# Altium schematic symbol library Library.SchLib: 352 symbols (part 1 of 2)
Pins are listed as number, name and electrical type; pins without a type are passive.

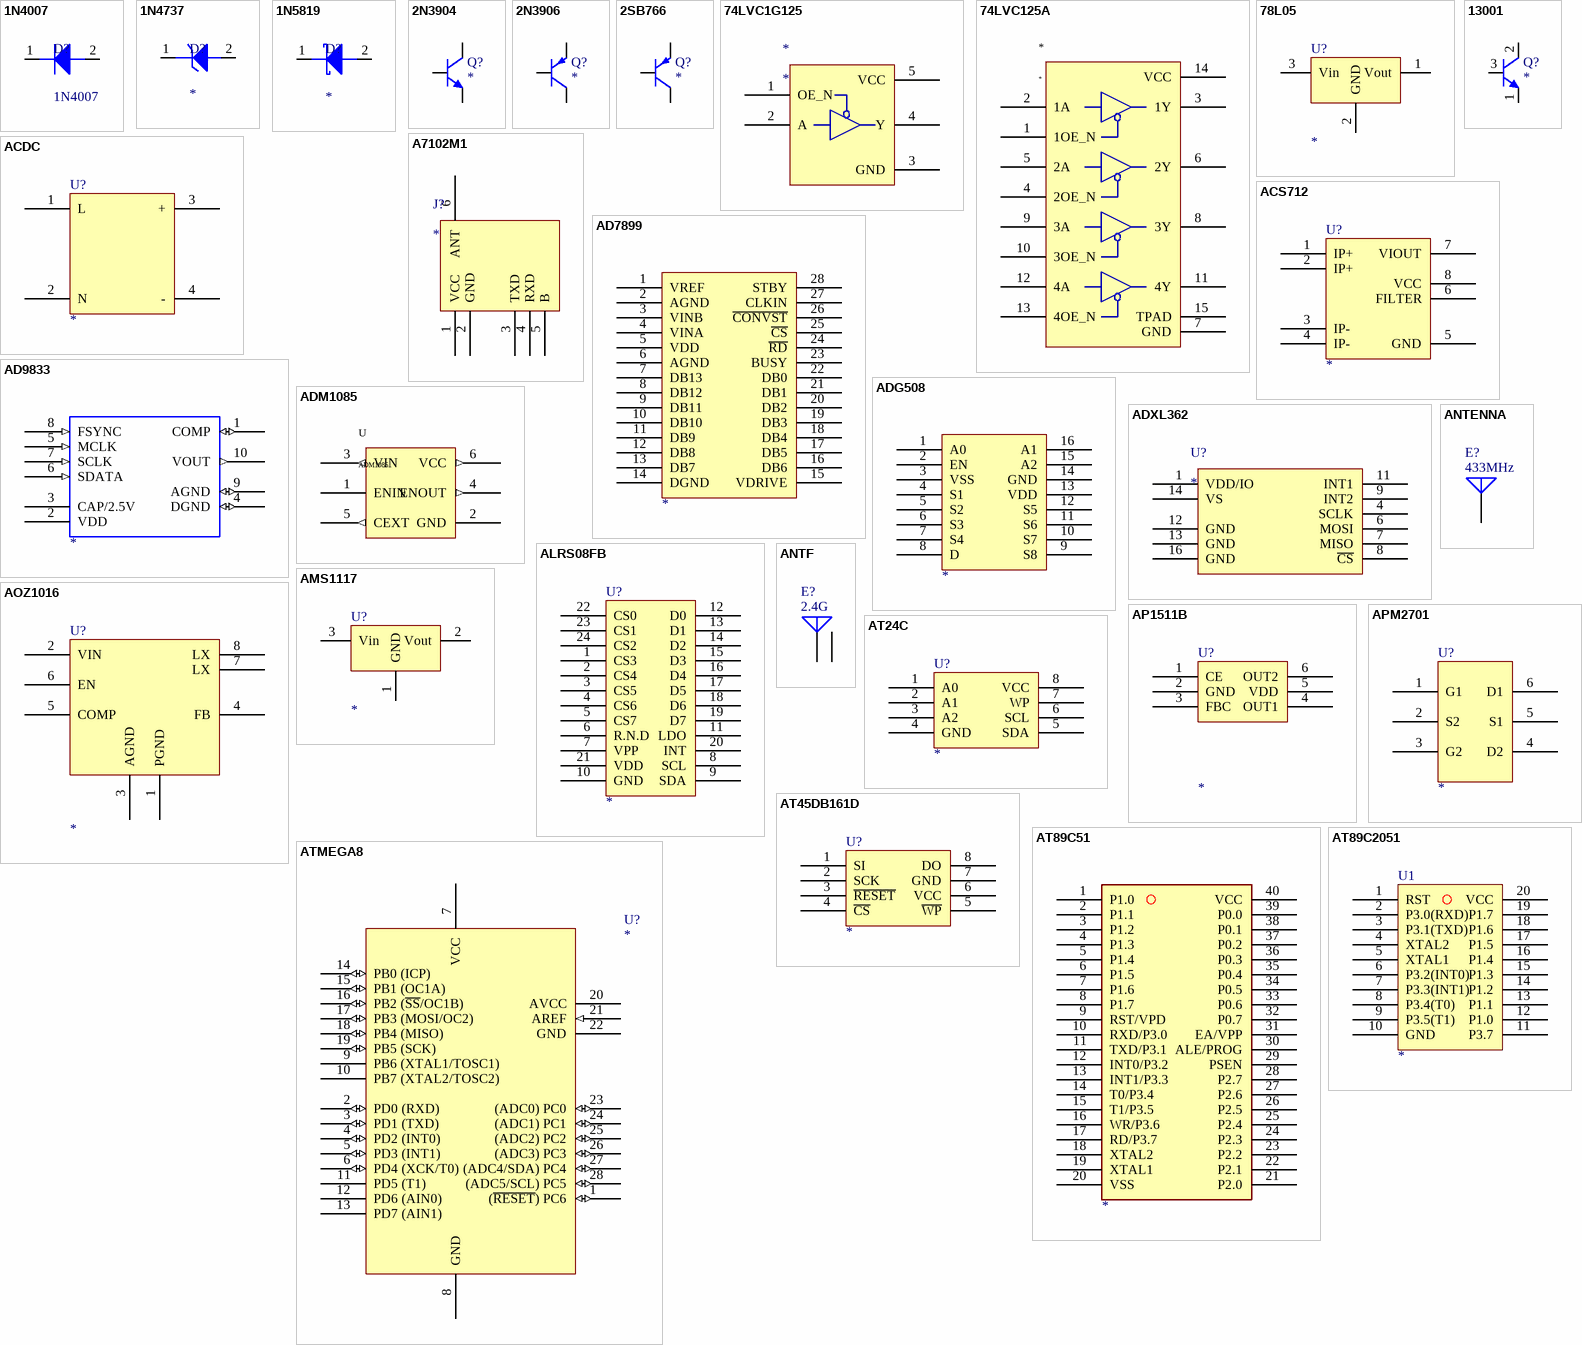
[diagram p0: symbols 1N4007 to ATMEGA8]

## 1N4007
designator D?
Diode
footprint SOD-123
footprint DO-214AC
pins: 1, 2

## 1N4737
designator D?
Zener Diode
footprint SOD-123
pins: 1, 2

## 1N5819
designator D?
Schottky Diode
footprint DO-214AC
footprint SOD-123
pins: 1, 2

## 2N3904
designator Q?
NPN; Published: *; LatestRevisionDate: *; LatestRevisionNote: *; DatasheetDocument: *; PackageReference: *; Publisher: *; Code_JEDEC: *
footprint SOT-23
pins: 1, 2, 3

## 2N3906
designator Q?
PNP; Published: *; LatestRevisionDate: *; LatestRevisionNote: *; DatasheetDocument: *; PackageReference: *; Publisher: *; Code_JEDEC: *
footprint SOT-23
pins: 1, 2, 3

## 2SB766
designator Q?
Published: *; LatestRevisionDate: *; LatestRevisionNote: *; DatasheetDocument: *; PackageReference: *; Publisher: *; Code_JEDEC: *
footprint SOT-89
pins: 1, 2, 3

## 74LVC1G125
designator *
footprint SOT-23-5
pins: 1 OE_N, 2 A, 3 GND, 4 Y, 5 VCC

## 74LVC125A
designator *
footprint SOP-14-W
pins: 1 1OE_N (power), 2 1A (power), 3 1Y (power), 4 2OE_N (power), 5 2A (power), 6 2Y (power), 7 GND (power), 8 3Y (power), 9 3A (power), 10 3OE_N (power), 11 4Y (power), 12 4A (power), 13 4OE_N (power), 14 VCC (power), 15 TPAD (power)
1 alternate drawing of the same symbol

## 78L05
designator U?
footprint TO-92
pins: 1 Vout, 2 GND, 3 Vin

## 13001
designator Q?
Published: *; LatestRevisionDate: *; LatestRevisionNote: *; DatasheetDocument: *; PackageReference: *; Publisher: *; Code_JEDEC: *
footprint TO-92
pins: 1 E, 2 C, 3 B

## A7102M1
designator J?
footprint A7102M1
pins: 1 VCC, 2 GND, 3 TXD, 4 RXD, 5 B, 6 ANT

## ACDC
designator U?
footprint XTQ3
pins: 1 L, 2 N, 3 +, 4 -

## ACS712
designator U?
footprint SOP-8
pins: 1 IP+, 2 IP+, 3 IP-, 4 IP-, 5 GND, 6 FILTER, 7 VIOUT, 8 VCC

## AD7899
designator ?
pins: 1 VREF, 2 AGND, 3 VINB, 4 VINA, 5 VDD, 6 AGND, 7 DB13, 8 DB12, 9 DB11, 10 DB10, 11 DB9, 12 DB8, 13 DB7, 14 DGND, 15 VDRIVE, 16 DB6, 17 DB5, 18 DB4, 19 DB3, 20 DB2, 21 DB1, 22 DB0, 23 BUSY, 24 ~{RD}, 25 ~{CS}, 26 ~{CONVST}, 27 CLKIN, 28 STBY

## AD9833
designator ?
pins: 1 COMP (io), 2 VDD (power), 3 CAP/2.5V (power), 4 DGND (io), 5 MCLK (in), 6 SDATA (in), 7 SCLK (in), 8 FSYNC (in), 9 AGND (io), 10 VOUT (out)

## ADG508
designator ?
pins: 1 A0, 2 EN, 3 VSS, 4 S1, 5 S2, 6 S3, 7 S4, 8 D, 9 S8, 10 S7, 11 S6, 12 S5, 13 VDD, 14 GND, 15 A2, 16 A1

## ADM1085
designator U
pins: 1 ENIN, 2 GND, 3 VIN (out), 4 ENOUT (out), 5 CEXT (out), 6 VCC (out)

## ADXL362
designator U?
footprint LGA-16
pins: 1 VDD/IO, 2 NC hidden, 3 RESERVED hidden, 4 SCLK, 5 RESERVED hidden, 6 MOSI, 7 MISO, 8 ~{CS}, 9 INT2, 10 RESERVED hidden, 11 INT1, 12 GND, 13 GND, 14 VS, 15 NC hidden, 16 GND

## ALRS08FB
designator U?
footprint MLF-24
pins: 1 CS3, 2 CS4, 3 CS5, 4 CS6, 5 CS7, 6 R.N.D, 7 VPP, 8 SCL, 9 SDA, 10 GND, 11 LDO, 12 D0, 13 D1, 14 D2, 15 D3, 16 D4, 17 D5, 18 D6, 19 D7, 20 INT, 21 VDD, 22 CS0, 23 CS1, 24 CS2

## AMS1117
designator U?
footprint AMS1117
pins: 1 GND, 2 Vout, 3 Vin

## ANTENNA
designator E?, comment 433MHz
Generic Antenna
footprint ANT-433
pins: 1 A

## ANTF
designator E?, comment 2.4G
Generic Antenna
footprint ANT-24G1
pins: 1 A, 2 B

## AOZ1016
designator U?
footprint SOP-8
pins: 1 PGND, 2 VIN, 3 AGND, 4 FB, 5 COMP, 6 EN, 7 LX, 8 LX

## AP1511B
designator U?
Chip
footprint SOT-23-6
pins: 1 CE, 2 GND, 3 FBC, 4 OUT1, 5 VDD, 6 OUT2

## APM2701
designator U?
footprint SOT-23-6
pins: 1 G1, 2 S2, 3 G2, 4 D2, 5 S1, 6 D1

## AT24C
designator U?
footprint DIP-8
footprint SOP-8
pins: 1 A0, 2 A1, 3 A2, 4 GND, 5 SDA, 6 SCL, 7 WP, 8 VCC

## AT45DB161D
designator U?
footprint SOP-8B
pins: 1 SI, 2 SCK, 3 ~{RESET}, 4 ~{CS}, 5 ~{WP}, 6 VCC, 7 GND, 8 DO

## AT89C51
designator ?
footprint DIP-40
pins: 1 P1.0, 2 P1.1, 3 P1.2, 4 P1.3, 5 P1.4, 6 P1.5, 7 P1.6, 8 P1.7, 9 RST/VPD, 10 RXD/P3.0, 11 TXD/P3.1, 12 INT0/P3.2, 13 INT1/P3.3, 14 T0/P3.4, 15 T1/P3.5, 16 WR/P3.6, 17 RD/P3.7, 18 XTAL2, 19 XTAL1, 20 VSS, 21 P2.0, 22 P2.1, 23 P2.2, 24 P2.3, 25 P2.4, 26 P2.5, 27 P2.6, 28 P2.7, 29 PSEN, 30 ALE/PROG, 31 EA/VPP, 32 P0.7, 33 P0.6, 34 P0.5, 35 P0.4, 36 P0.3, 37 P0.2, 38 P0.1, 39 P0.0, 40 VCC

## AT89C2051
designator U1
footprint DIP-20
pins: 1 RST, 2 P3.0(RXD), 3 P3.1(TXD), 4 XTAL2, 5 XTAL1, 6 P3.2(INT0), 7 P3.3(INT1), 8 P3.4(T0), 9 P3.5(T1), 10 GND, 11 P3.7, 12 P1.0, 13 P1.1, 14 P1.2, 15 P1.3, 16 P1.4, 17 P1.5, 18 P1.6, 19 P1.7, 20 VCC

## ATMEGA8
designator U?
Atmel Microcontroller - Library created by carel..  <www.mpfreezone.com>
footprint DIP-28
pins: 1 (~{RESET}) PC6 (io), 2 PD0 (RXD) (io), 3 PD1 (TXD) (io), 4 PD2 (INT0) (io), 5 PD3 (INT1) (io), 6 PD4 (XCK/T0) (io), 7 VCC, 8 GND, 9 PB6 (XTAL1/TOSC1), 10 PB7 (XTAL2/TOSC2), 11 PD5 (T1), 12 PD6 (AIN0), 13 PD7 (AIN1), 14 PB0 (ICP) (io), 15 PB1 (OC1A) (io), 16 PB2 (~{SS}/OC1B) (io), 17 PB3 (MOSI/OC2) (io), 18 PB4 (MISO) (io), 19 PB5 (SCK) (io), 20 AVCC, 21 AREF (in), 22 GND, 23 (ADC0) PC0 (io), 24 (ADC1) PC1 (io), 25 (ADC2) PC2 (io), 26 (ADC3) PC3 (io), 27 (ADC4/SDA) PC4 (io), 28 (ADC5/SCL) PC5 (io)

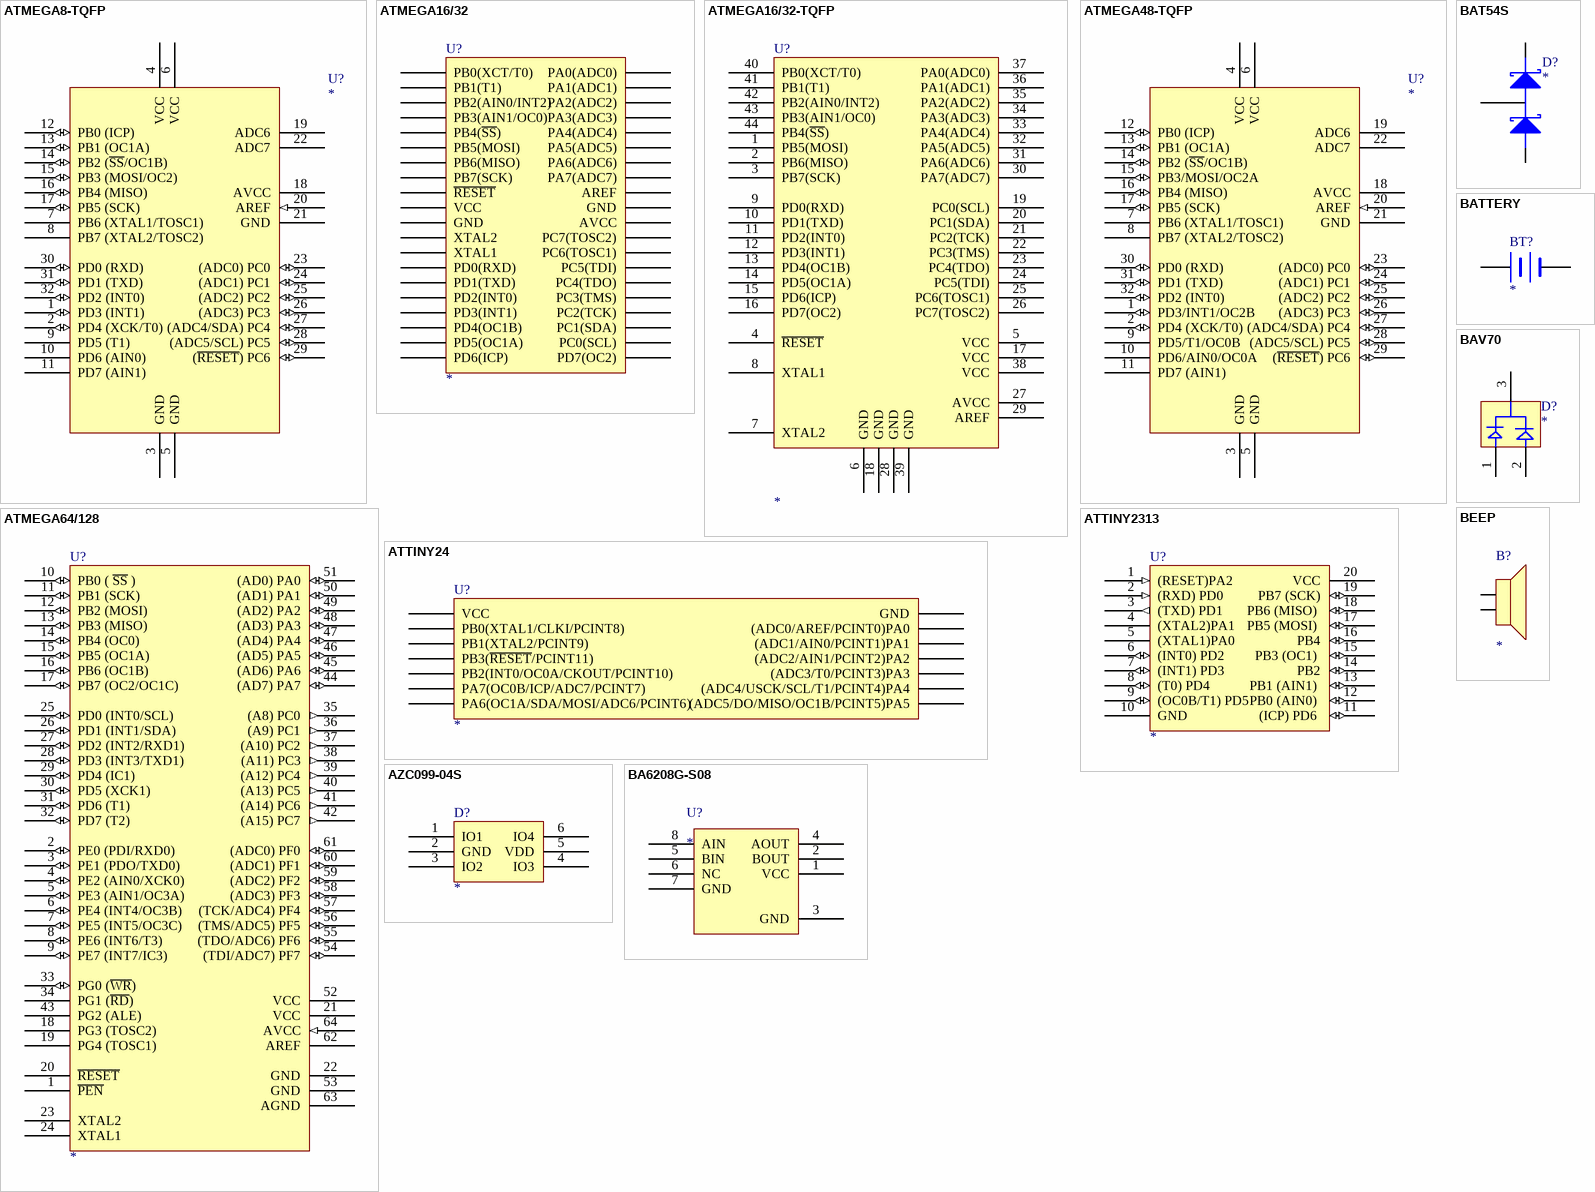
[diagram p1: symbols ATMEGA8-TQFP to BEEP]

## ATMEGA8-TQFP
designator U?
Atmel Microcontroller - Library created by carel..  <www.mpfreezone.com>
footprint LQFP-32
pins: 1 PD3 (INT1) (io), 2 PD4 (XCK/T0) (io), 3 GND, 4 VCC, 5 GND, 6 VCC, 7 PB6 (XTAL1/TOSC1), 8 PB7 (XTAL2/TOSC2), 9 PD5 (T1), 10 PD6 (AIN0), 11 PD7 (AIN1), 12 PB0 (ICP) (io), 13 PB1 (OC1A) (io), 14 PB2 (~{SS}/OC1B) (io), 15 PB3 (MOSI/OC2) (io), 16 PB4 (MISO) (io), 17 PB5 (SCK) (io), 18 AVCC, 19 ADC6, 20 AREF (in), 21 GND, 22 ADC7, 23 (ADC0) PC0 (io), 24 (ADC1) PC1 (io), 25 (ADC2) PC2 (io), 26 (ADC3) PC3 (io), 27 (ADC4/SDA) PC4 (io), 28 (ADC5/SCL) PC5 (io), 29 (~{RESET}) PC6 (io), 30 PD0 (RXD) (io), 31 PD1 (TXD) (io), 32 PD2 (INT0) (io)

## ATMEGA16/32
designator U?
footprint DIP-40
pins: 1 PB0(XCT/T0), 2 PB1(T1), 3 PB2(AIN0/INT2), 4 PB3(AIN1/OC0), 5 PB4(~{SS}), 6 PB5(MOSI), 7 PB6(MISO), 8 PB7(SCK), 9 ~{RESET}, 10 VCC, 11 GND, 12 XTAL2, 13 XTAL1, 14 PD0(RXD), 15 PD1(TXD), 16 PD2(INT0), 17 PD3(INT1), 18 PD4(OC1B), 19 PD5(OC1A), 20 PD6(ICP), 21 PD7(OC2), 22 PC0(SCL), 23 PC1(SDA), 24 PC2(TCK), 25 PC3(TMS), 26 PC4(TDO), 27 PC5(TDI), 28 PC6(TOSC1), 29 PC7(TOSC2), 30 AVCC, 31 GND, 32 AREF, 33 PA7(ADC7), 34 PA6(ADC6), 35 PA5(ADC5), 36 PA4(ADC4), 37 PA3(ADC3), 38 PA2(ADC2), 39 PA1(ADC1), 40 PA0(ADC0)

## ATMEGA16/32-TQFP
designator U?
ATmega16/32
footprint TQFP-44
pins: 1 PB5(MOSI), 2 PB6(MISO), 3 PB7(SCK), 4 ~{RESET}, 5 VCC, 6 GND, 7 XTAL2, 8 XTAL1, 9 PD0(RXD), 10 PD1(TXD), 11 PD2(INT0), 12 PD3(INT1), 13 PD4(OC1B), 14 PD5(OC1A), 15 PD6(ICP), 16 PD7(OC2), 17 VCC, 18 GND, 19 PC0(SCL), 20 PC1(SDA), 21 PC2(TCK), 22 PC3(TMS), 23 PC4(TDO), 24 PC5(TDI), 25 PC6(TOSC1), 26 PC7(TOSC2), 27 AVCC, 28 GND, 29 AREF, 30 PA7(ADC7), 31 PA6(ADC6), 32 PA5(ADC5), 33 PA4(ADC4), 34 PA3(ADC3), 35 PA2(ADC2), 36 PA1(ADC1), 37 PA0(ADC0), 38 VCC, 39 GND, 40 PB0(XCT/T0), 41 PB1(T1), 42 PB2(AIN0/INT2), 43 PB3(AIN1/OC0), 44 PB4(~{SS})

## ATMEGA48-TQFP
designator U?
Atmel Microcontroller - Library created by carel..  <www.mpfreezone.com>
footprint LQFP-48
pins: 1 PD3/INT1/OC2B (io), 2 PD4 (XCK/T0) (io), 3 GND, 4 VCC, 5 GND, 6 VCC, 7 PB6 (XTAL1/TOSC1), 8 PB7 (XTAL2/TOSC2), 9 PD5/T1/OC0B, 10 PD6/AIN0/OC0A, 11 PD7 (AIN1), 12 PB0 (ICP) (io), 13 PB1 (OC1A) (io), 14 PB2 (~{SS}/OC1B) (io), 15 PB3/MOSI/OC2A (io), 16 PB4 (MISO) (io), 17 PB5 (SCK) (io), 18 AVCC, 19 ADC6, 20 AREF (in), 21 GND, 22 ADC7, 23 (ADC0) PC0 (io), 24 (ADC1) PC1 (io), 25 (ADC2) PC2 (io), 26 (ADC3) PC3 (io), 27 (ADC4/SDA) PC4 (io), 28 (ADC5/SCL) PC5 (io), 29 (~{RESET}) PC6 (io), 30 PD0 (RXD) (io), 31 PD1 (TXD) (io), 32 PD2 (INT0) (io)

## ATMEGA64/128
designator U?
Atmel Microcontroller - Library created by carel..  <www.mpfreezone.com>
footprint TQFP-64
pins: 1 ~{PEN}, 2 PE0 (PDI/RXD0) (io), 3 PE1 (PDO/TXD0)  (io), 4 PE2 (AIN0/XCK0) (io), 5 PE3 (AIN1/OC3A) (io), 6 PE4 (INT4/OC3B) (io), 7 PE5 (INT5/OC3C) (io), 8 PE6 (INT6/T3) (io), 9 PE7 (INT7/IC3) (io), 10 PB0 ( ~{SS} ) (io), 11 PB1 (SCK) (io), 12 PB2 (MOSI) (io), 13 PB3 (MISO) (io), 14 PB4 (OC0) (io), 15 PB5 (OC1A) (io), 16 PB6 (OC1B) (io), 17 PB7 (OC2/OC1C) (io), 18 PG3 (TOSC2), 19 PG4 (TOSC1), 20 ~{RESET}, 21 VCC (power), 22 GND (power), 23 XTAL2, 24 XTAL1, 25 PD0 (INT0/SCL) (io), 26 PD1 (INT1/SDA) (io), 27 PD2 (INT2/RXD1) (io), 28 PD3 (INT3/TXD1) (io), 29 PD4 (IC1) (io), 30 PD5 (XCK1) (io), 31 PD6 (T1) (io), 32 PD7 (T2) (io), 33 PG0 (~{WR}) (io), 34 PG1 (~{RD}), 35 (A8) PC0 (out), 36 (A9) PC1 (out), 37 (A10) PC2 (out), 38 (A11) PC3 (out), 39 (A12) PC4 (out), 40 (A13) PC5 (out), 41 (A14) PC6 (out), 42 (A15) PC7 (out), 43 PG2 (ALE), 44 (AD7) PA7 (io), 45 (AD6) PA6 (io), 46 (AD5) PA5 (io), 47 (AD4) PA4 (io), 48 (AD3) PA3 (io), 49 (AD2) PA2 (io), 50 (AD1) PA1 (io), 51 (AD0) PA0 (io), 52 VCC (power), 53 GND (power), 54 (TDI/ADC7) PF7 (io), 55 (TDO/ADC6) PF6 (io), 56 (TMS/ADC5) PF5 (io), 57 (TCK/ADC4) PF4 (io), 58 (ADC3) PF3 (io), 59 (ADC2) PF2 (io), 60 (ADC1) PF1 (io), 61 (ADC0) PF0 (io), 62 AREF, 63 AGND, 64 AVCC (in)

## ATTINY24
designator U?
footprint DIP-14
pins: 1 VCC, 2 PB0(XTAL1/CLKI/PCINT8), 3 PB1(XTAL2/PCINT9), 4 PB3(~{RESET}/PCINT11), 5 PB2(INT0/OC0A/CKOUT/PCINT10), 6 PA7(OC0B/ICP/ADC7/PCINT7), 7 PA6(OC1A/SDA/MOSI/ADC6/PCINT6), 8 (ADC5/DO/MISO/OC1B/PCINT5)PA5, 9 (ADC4/USCK/SCL/T1/PCINT4)PA4, 10 (ADC3/T0/PCINT3)PA3, 11 (ADC2/AIN1/PCINT2)PA2, 12 (ADC1/AIN0/PCINT1)PA1, 13 (ADC0/AREF/PCINT0)PA0, 14 GND

## ATTINY2313
designator U?
Atmel Microcontroller - Library created by carel..  <www.mpfreezone.com>
footprint DIP-20
pins: 1 (RESET)PA2 (in), 2 (RXD) PD0  (in), 3 (TXD) PD1  (out), 4 (XTAL2)PA1, 5 (XTAL1)PA0, 6 (INT0) PD2  (io), 7 (INT1) PD3  (io), 8 (T0) PD4  (io), 9 (OC0B/T1) PD5  (io), 10 GND (power), 11 (ICP) PD6  (io), 12 PB0 (AIN0)  (io), 13 PB1 (AIN1)  (io), 14 PB2 (io), 15 PB3 (OC1)  (io), 16 PB4 (io), 17 PB5 (MOSI)  (io), 18 PB6 (MISO)  (io), 19 PB7 (SCK) (io), 20 VCC (power)

## AZC099-04S
designator D?
footprint SOT-23-6
pins: 1 IO1, 2 GND, 3 IO2, 4 IO3, 5 VDD, 6 IO4

## BA6208G-S08
designator U?
Motor Driver
footprint SOP-8
pins: 1 VCC, 2 BOUT, 3 GND, 4 AOUT, 5 BIN, 6 NC, 7 GND, 8 AIN

## BAT54S
designator D?
Schottky Diode
footprint SOT-23
pins: 1, 2, 3

## BATTERY
designator BT?
Battery
pins: 1 +, 2 -

## BAV70
designator D?
Published: *; LatestRevisionDate: *; LatestRevisionNote: *; Publisher: *; Code_JEDEC: *
footprint SOT-23
pins: 1 OUT, 2 OUT, 3 OUT

## BEEP
designator B?
footprint BEEP
pins: 1 41, 2 42

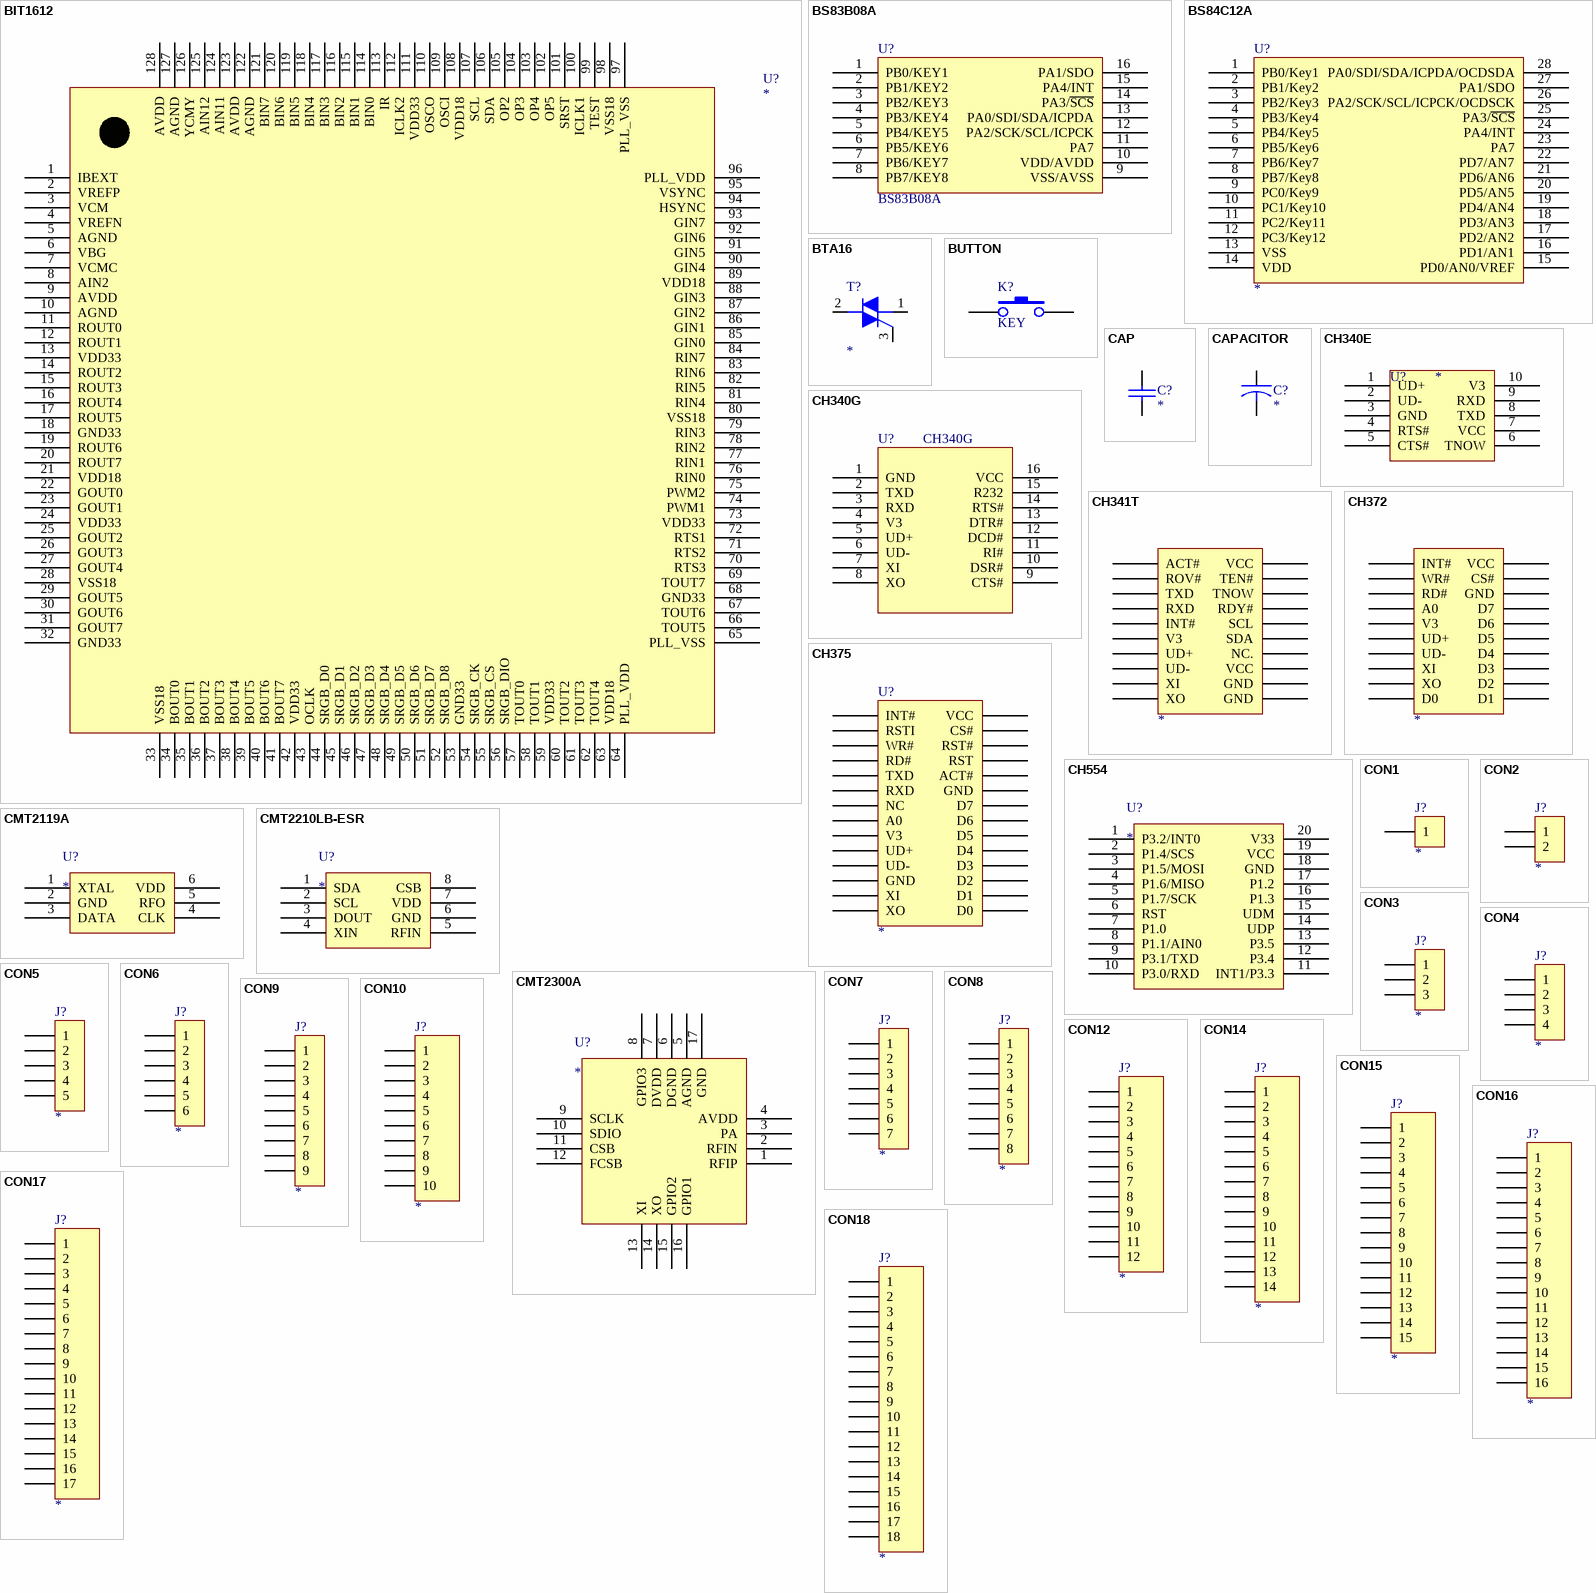
[diagram p2: symbols BIT1612 to CON18]

## BIT1612
designator U?
footprint LQFP-128
pins: 1 IBEXT, 2 VREFP, 3 VCM, 4 VREFN, 5 AGND, 6 VBG, 7 VCMC, 8 AIN2, 9 AVDD, 10 AGND, 11 ROUT0, 12 ROUT1, 13 VDD33, 14 ROUT2, 15 ROUT3, 16 ROUT4, 17 ROUT5, 18 GND33, 19 ROUT6, 20 ROUT7, 21 VDD18, 22 GOUT0, 23 GOUT1, 24 VDD33, 25 GOUT2, 26 GOUT3, 27 GOUT4, 28 VSS18, 29 GOUT5, 30 GOUT6, 31 GOUT7, 32 GND33, 33 VSS18, 34 BOUT0, 35 BOUT1, 36 BOUT2, 37 BOUT3, 38 BOUT4, 39 BOUT5, 40 BOUT6, 41 BOUT7, 42 VDD33, 43 OCLK, 44 SRGB_D0, 45 SRGB_D1, 46 SRGB_D2, 47 SRGB_D3, 48 SRGB_D4, 49 SRGB_D5, 50 SRGB_D6, 51 SRGB_D7, 52 SRGB_D8, 53 GND33, 54 SRGB_CK, 55 SRGB_CS, 56 SRGB_DIO, 57 TOUT0, 58 TOUT1, 59 VDD33, 60 TOUT2, 61 TOUT3, 62 TOUT4, 63 VDD18, 64 PLL_VDD, 65 PLL_VSS, 66 TOUT5, 67 TOUT6, 68 GND33, 69 TOUT7, 70 RTS3, 71 RTS2, 72 RTS1, 73 VDD33, 74 PWM1, 75 PWM2, 76 RIN0, 77 RIN1, 78 RIN2, 79 RIN3, 80 VSS18, 81 RIN4, 82 RIN5, 83 RIN6, 84 RIN7, 85 GIN0, 86 GIN1, 87 GIN2, 88 GIN3, 89 VDD18, 90 GIN4, 91 GIN5, 92 GIN6, 93 GIN7, 94 HSYNC, 95 VSYNC, 96 PLL_VDD, 97 PLL_VSS, 98 VSS18, 99 TEST, 100 ICLK1, 101 SRST, 102 OP5, 103 OP4, 104 OP3, 105 OP2, 106 SDA, 107 SCL, 108 VDD18, 109 OSCI, 110 OSCO, 111 VDD33, 112 ICLK2, 113 IR, 114 BIN0, 115 BIN1, 116 BIN2, 117 BIN3, 118 BIN4, 119 BIN5, 120 BIN6, 121 BIN7, 122 AGND, 123 AVDD, 124 AIN11, 125 AIN12, 126 YCMY, 127 AGND, 128 AVDD

## BS83B08A
designator U?
MCU
footprint SOP-16
pins: 1 PB0/KEY1, 2 PB1/KEY2, 3 PB2/KEY3, 4 PB3/KEY4, 5 PB4/KEY5, 6 PB5/KEY6, 7 PB6/KEY7, 8 PB7/KEY8, 9 VSS/AVSS, 10 VDD/AVDD, 11 PA7, 12 PA2/SCK/SCL/ICPCK, 13 PA0/SDI/SDA/ICPDA, 14 PA3/~{SCS}, 15 PA4/INT, 16 PA1/SDO

## BS84C12A
designator U?
Chip; Package Reference: SO-28
footprint SOP-28A
footprint SSOP-28-HT
pins: 1 PB0/Key1, 2 PB1/Key2, 3 PB2/Key3, 4 PB3/Key4, 5 PB4/Key5, 6 PB5/Key6, 7 PB6/Key7, 8 PB7/Key8, 9 PC0/Key9, 10 PC1/Key10, 11 PC2/Key11, 12 PC3/Key12, 13 VSS, 14 VDD, 15 PD0/AN0/VREF, 16 PD1/AN1, 17 PD2/AN2, 18 PD3/AN3, 19 PD4/AN4, 20 PD5/AN5, 21 PD6/AN6, 22 PD7/AN7, 23 PA7, 24 PA4/INT, 25 PA3/~{SCS}, 26 PA2/SCK/SCL/ICPCK/OCDSCK, 27 PA1/SDO, 28 PA0/SDI/SDA/ICPDA/OCDSDA

## BTA16
designator T?
Published: *; LatestRevisionDate: *; LatestRevisionNote: *; DatasheetDocument: *; PackageReference: *; Publisher: *; Note: *; Code_JEDEC: *
footprint TO-220V
pins: 1 M1, 2 M2, 3 G
2 alternate drawings of the same symbol

## BUTTON
designator K?, comment KEY
BUTTON
footprint BUTTON1
footprint BUTTON2
footprint BUTTON3
footprint BUTTON4
footprint BUTTON5
footprint BUTTON6
pins: 1, 2

## CAP
designator C?
Capacitor
footprint C0603
footprint C0805
footprint C1206
footprint C0402
pins: 1, 2

## CAPACITOR
designator C?
Capacitor
footprint C0805
footprint C1206
footprint C0603
pins: 1, 2

## CH340E
designator U?
IC
footprint MSOP-10
pins: 1 UD+, 2 UD-, 3 GND, 4 RTS#, 5 CTS#, 6 TNOW, 7 VCC, 8 TXD, 9 RXD, 10 V3

## CH340G
designator U?
IC
footprint SOP-16
pins: 1 GND, 2 TXD, 3 RXD, 4 V3, 5 UD+, 6 UD-, 7 XI, 8 XO, 9 CTS#, 10 DSR#, 11 RI#, 12 DCD#, 13 DTR#, 14 RTS#, 15 R232, 16 VCC

## CH341T
designator ?
footprint TSSOP-20
pins: 1 ACT#, 2 ROV#, 3 TXD, 4 RXD, 5 INT#, 6 V3, 7 UD+, 8 UD-, 9 XI, 10 XO, 11 GND, 12 GND, 13 VCC, 14 NC., 15 SDA, 16 SCL, 17 RDY#, 18 TNOW, 19 TEN#, 20 VCC

## CH372
designator ?
footprint TSSOP-20
pins: 1 INT#, 2 WR#, 3 RD#, 4 A0, 5 V3, 6 UD+, 7 UD-, 8 XI, 9 XO, 10 D0, 11 D1, 12 D2, 13 D3, 14 D4, 15 D5, 16 D6, 17 D7, 18 GND, 19 CS#, 20 VCC

## CH375
designator U?
IC
footprint SOP-28A
pins: 1 INT#, 2 RSTI, 3 WR#, 4 RD#, 5 TXD, 6 RXD, 7 NC, 8 A0, 9 V3, 10 UD+, 11 UD-, 12 GND, 13 XI, 14 XO, 15 D0, 16 D1, 17 D2, 18 D3, 19 D4, 20 D5, 21 D6, 22 D7, 23 GND, 24 ACT#, 25 RST, 26 RST#, 27 CS#, 28 VCC

## CH554
designator U?
IC
footprint TSSOP-20
pins: 1 P3.2/INT0, 2 P1.4/SCS, 3 P1.5/MOSI, 4 P1.6/MISO, 5 P1.7/SCK, 6 RST, 7 P1.0, 8 P1.1/AIN0, 9 P3.1/TXD, 10 P3.0/RXD, 11 INT1/P3.3, 12 P3.4, 13 P3.5, 14 UDP, 15 UDM, 16 P1.3, 17 P1.2, 18 GND, 19 VCC, 20 V33

## CMT2119A
designator U?
Chip
footprint SOT-23-6
pins: 1 XTAL, 2 GND, 3 DATA, 4 CLK, 5 RFO, 6 VDD

## CMT2210LB-ESR
designator U?
Chip
footprint SOP-8
pins: 1 SDA, 2 SCL, 3 DOUT, 4 XIN, 5 RFIN, 6 GND, 7 VDD, 8 CSB

## CMT2300A
designator U?
Chip
footprint QFN-16
pins: 1 RFIP, 2 RFIN, 3 PA, 4 AVDD, 5 AGND, 6 DGND, 7 DVDD, 8 GPIO3, 9 SCLK, 10 SDIO, 11 CSB, 12 FCSB, 13 XI, 14 XO, 15 GPIO2, 16 GPIO1, 17 GND

## CON1
designator J?
Connector
footprint SIP-1
pins: 1

## CON2
designator J?
Connector
footprint SIP-2
pins: 1, 2

## CON3
designator J?
Connector
footprint SIP-3
pins: 1, 2, 3

## CON4
designator J?
Connector
footprint SIP-4
pins: 1, 2, 3, 4

## CON5
designator J?
Connector
footprint SIP-5
footprint H3V4F
footprint CH2.0-5A
pins: 1, 2, 3, 4, 5

## CON6
designator J?
Connector
footprint SIP-6
pins: 1, 2, 3, 4, 5, 6

## CON7
designator J?
Connector
pins: 1, 2, 3, 4, 5, 6, 7

## CON8
designator J?
Connector
footprint SIP-8
footprint SIP-8-1.27
pins: 1, 2, 3, 4, 5, 6, 7, 8

## CON9
designator J?
Connector
pins: 1, 2, 3, 4, 5, 6, 7, 8, 9

## CON10
designator J?
Connector
footprint SIP-10
pins: 1, 2, 3, 4, 5, 6, 7, 8, 9, 10

## CON12
designator J?
Connector
pins: 1, 2, 3, 4, 5, 6, 7, 8, 9, 10, 11, 12

## CON14
designator J?
Connector
footprint SIP-14
pins: 1, 2, 3, 4, 5, 6, 7, 8, 9, 10, 11, 12, 13, 14

## CON15
designator J?
Connector
pins: 1, 2, 3, 4, 5, 6, 7, 8, 9, 10, 11, 12, 13, 14, 15

## CON16
designator J?
Connector
footprint SIP-16
pins: 1, 2, 3, 4, 5, 6, 7, 8, 9, 10, 11, 12, 13, 14, 15, 16

## CON17
designator J?
Connector
pins: 1, 2, 3, 4, 5, 6, 7, 8, 9, 10, 11, 12, 13, 14, 15, 16, 17

## CON18
designator J?
Connector
pins: 1, 2, 3, 4, 5, 6, 7, 8, 9, 10, 11, 12, 13, 14, 15, 16, 17, 18

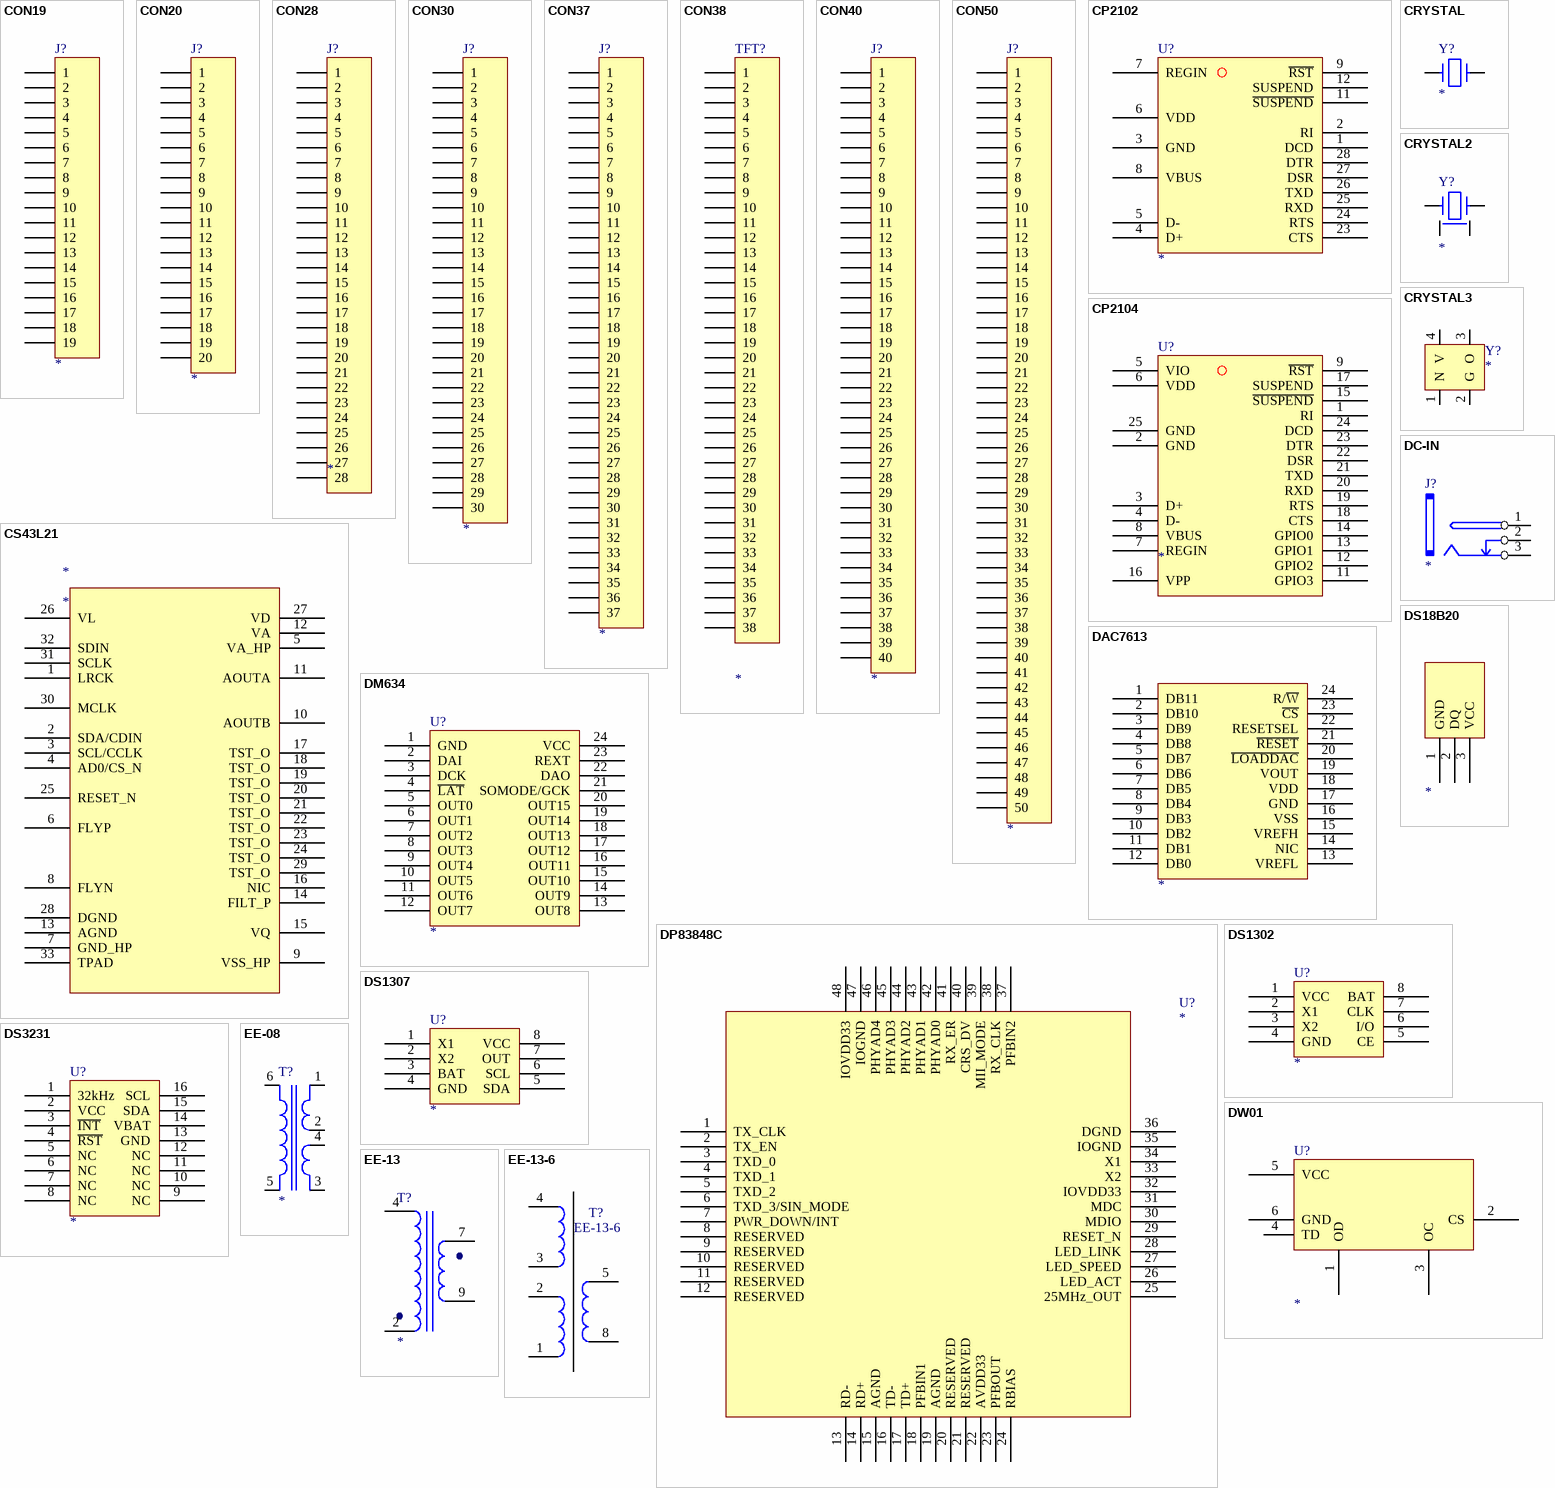
[diagram p3: symbols CON19 to EE-13-6]

## CON19
designator J?
Connector
pins: 1, 2, 3, 4, 5, 6, 7, 8, 9, 10, 11, 12, 13, 14, 15, 16, 17, 18, 19

## CON20
designator J?
Connector
footprint SIP-20
pins: 1, 2, 3, 4, 5, 6, 7, 8, 9, 10, 11, 12, 13, 14, 15, 16, 17, 18, 19, 20

## CON28
designator J?
Connector
footprint SIP-14x2
pins: 1, 2, 3, 4, 5, 6, 7, 8, 9, 10, 11, 12, 13, 14, 15, 16, 17, 18, 19, 20, 21, 22, 23, 24, 25, 26, 27, 28

## CON30
designator J?
Connector
footprint SIP-15x2
pins: 1, 2, 3, 4, 5, 6, 7, 8, 9, 10, 11, 12, 13, 14, 15, 16, 17, 18, 19, 20, 21, 22, 23, 24, 25, 26, 27, 28, 29, 30

## CON37
designator J?
Connector
footprint TFT-3.5
pins: 1, 2, 3, 4, 5, 6, 7, 8, 9, 10, 11, 12, 13, 14, 15, 16, 17, 18, 19, 20, 21, 22, 23, 24, 25, 26, 27, 28, 29, 30, 31, 32, 33, 34, 35, 36, 37

## CON38
designator TFT?
Connector
footprint TFT-2.2H
pins: 1, 2, 3, 4, 5, 6, 7, 8, 9, 10, 11, 12, 13, 14, 15, 16, 17, 18, 19, 20, 21, 22, 23, 24, 25, 26, 27, 28, 29, 30, 31, 32, 33, 34, 35, 36, 37, 38

## CON40
designator J?
Connector
footprint FFC/SM0.5-2H40
pins: 1, 2, 3, 4, 5, 6, 7, 8, 9, 10, 11, 12, 13, 14, 15, 16, 17, 18, 19, 20, 21, 22, 23, 24, 25, 26, 27, 28, 29, 30, 31, 32, 33, 34, 35, 36, 37, 38, 39, 40

## CON50
designator J?
Connector
pins: 1, 2, 3, 4, 5, 6, 7, 8, 9, 10, 11, 12, 13, 14, 15, 16, 17, 18, 19, 20, 21, 22, 23, 24, 25, 26, 27, 28, 29, 30, 31, 32, 33, 34, 35, 36, 37, 38, 39, 40, 41, 42, 43, 44, 45, 46, 47, 48, 49, 50

## CP2102
designator U?
footprint CP2102
pins: 1 DCD, 2 RI, 3 GND, 4 D+, 5 D-, 6 VDD, 7 REGIN, 8 VBUS, 9 ~{RST}, 11 ~{SUSPEND}, 12 SUSPEND, 23 CTS, 24 RTS, 25 RXD, 26 TXD, 27 DSR, 28 DTR

## CP2104
designator U?
footprint QFN-24
pins: 1 RI, 2 GND, 3 D+, 4 D-, 5 VIO, 6 VDD, 7 REGIN, 8 VBUS, 9 ~{RST}, 11 GPIO3, 12 GPIO2, 13 GPIO1, 14 GPIO0, 15 ~{SUSPEND}, 16 VPP, 17 SUSPEND, 18 CTS, 19 RTS, 20 RXD, 21 TXD, 22 DSR, 23 DTR, 24 DCD, 25 GND

## CRYSTAL
designator Y?
Crystal Oscillator
footprint JT2
footprint JT3225
pins: 1, 2

## CRYSTAL2
designator Y?
footprint JT3225YY
pins: 1, 2, 3, 4

## CRYSTAL3
designator Y?
footprint JT3225
pins: 1 N, 2 G, 3 O, 4 V

## CS43L21
designator *
footprint QFN-32
pins: 1 LRCK, 2 SDA/CDIN, 3 SCL/CCLK, 4 AD0/CS_N, 5 VA_HP, 6 FLYP, 7 GND_HP, 8 FLYN, 9 VSS_HP, 10 AOUTB, 11 AOUTA, 12 VA, 13 AGND, 14 FILT_P, 15 VQ, 16 NIC, 17 TST_O, 18 TST_O, 19 TST_O, 20 TST_O, 21 TST_O, 22 TST_O, 23 TST_O, 24 TST_O, 25 RESET_N, 26 VL, 27 VD, 28 DGND, 29 TST_O, 30 MCLK, 31 SCLK, 32 SDIN, 33 TPAD

## DAC7613
designator ?
pins: 1 DB11, 2 DB10, 3 DB9, 4 DB8, 5 DB7, 6 DB6, 7 DB5, 8 DB4, 9 DB3, 10 DB2, 11 DB1, 12 DB0, 13 VREFL, 14 NIC, 15 VREFH, 16 VSS, 17 GND, 18 VDD, 19 VOUT, 20 ~{LOADDAC}, 21 ~{RESET}, 22 RESETSEL, 23 ~{CS}, 24 R/~{W}

## DC-IN
designator J?
footprint DC-IN
pins: 1, 2, 3

## DM634
designator U?
footprint TSSOP-24
pins: 1 GND, 2 DAI, 3 DCK, 4 ~{LAT}, 5 OUT0, 6 OUT1, 7 OUT2, 8 OUT3, 9 OUT4, 10 OUT5, 11 OUT6, 12 OUT7, 13 OUT8, 14 OUT9, 15 OUT10, 16 OUT11, 17 OUT12, 18 OUT13, 19 OUT14, 20 OUT15, 21 SOMODE/GCK, 22 DAO, 23 REXT, 24 VCC

## DP83848C
designator U?
footprint LQFP-48
pins: 1 TX_CLK, 2 TX_EN, 3 TXD_0, 4 TXD_1, 5 TXD_2, 6 TXD_3/SIN_MODE, 7 PWR_DOWN/INT, 8 RESERVED, 9 RESERVED, 10 RESERVED, 11 RESERVED, 12 RESERVED, 13 RD-, 14 RD+, 15 AGND, 16 TD-, 17 TD+, 18 PFBIN1, 19 AGND, 20 RESERVED, 21 RESERVED, 22 AVDD33, 23 PFBOUT, 24 RBIAS, 25 25MHz_OUT, 26 LED_ACT, 27 LED_SPEED, 28 LED_LINK, 29 RESET_N, 30 MDIO, 31 MDC, 32 IOVDD33, 33 X2, 34 X1, 35 IOGND, 36 DGND, 37 PFBIN2, 38 RX_CLK, 39 MII_MODE, 40 CRS_DV, 41 RX_ER, 42 PHYAD0, 43 PHYAD1, 44 PHYAD2, 45 PHYAD3, 46 PHYAD4, 47 IOGND, 48 IOVDD33

## DS18B20
designator ?
pins: 1 GND, 2 DQ, 3 VCC

## DS1302
designator U?
footprint SOP-8
pins: 1 VCC, 2 X1, 3 X2, 4 GND, 5 CE, 6 I/O, 7 CLK, 8 BAT

## DS1307
designator U?
footprint SOP-8
pins: 1 X1, 2 X2, 3 BAT, 4 GND, 5 SDA, 6 SCL, 7 OUT, 8 VCC

## DS3231
designator U?
DS3231
footprint SOP-16A
pins: 1 32kHz, 2 VCC, 3 ~{INT}, 4 ~{RST}, 5 NC, 6 NC, 7 NC, 8 NC, 9 NC, 10 NC, 11 NC, 12 NC, 13 GND, 14 VBAT, 15 SDA, 16 SCL

## DW01
designator U?
footprint SOT-23-6
pins: 1 OD, 2 CS, 3 OC, 4 TD, 5 VCC, 6 GND

## EE-08
designator T?
pins: 1 Pri-, 2, 3 Pri+, 4 SecCT, 5 Sec+, 6 Sec-

## EE-13
designator T?
pins: 2, 4, 7, 9

## EE-13-6
designator T?
footprint EE-13-6
pins: 1, 2, 3, 4, 5 A, 8 B

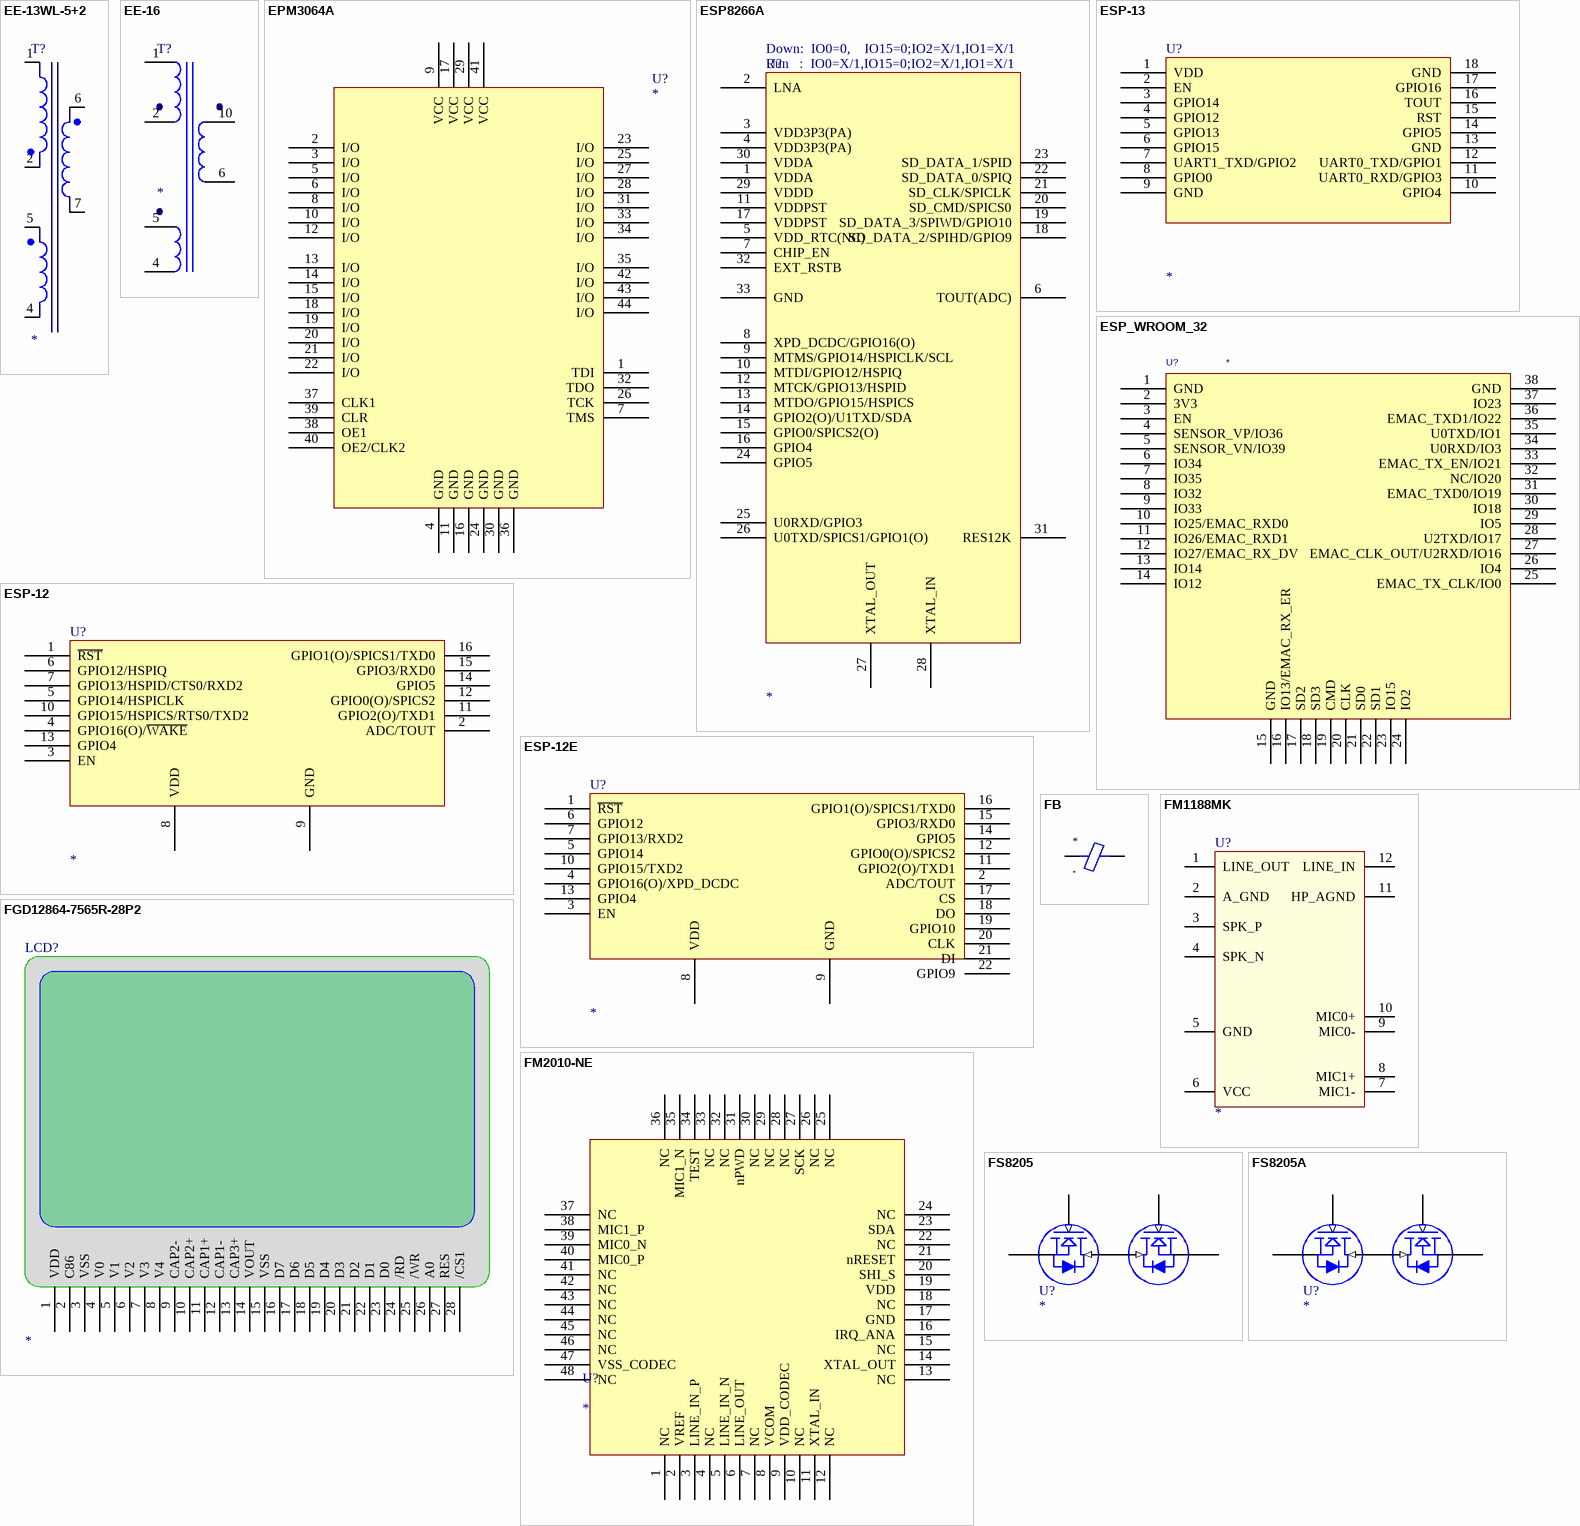
[diagram p4: symbols EE-13WL-5+2 to FS8205A]

## EE-13WL-5+2
designator T?
变压器
footprint EE-13WL-5+2
pins: 1, 2, 4, 5, 6, 7

## EE-16
designator T?
footprint EE-16W5+5
pins: 1 Pri-, 2, 4, 5, 6, 10

## EPM3064A
designator U?
footprint TQFP-44
pins: 1 TDI, 2 I/O, 3 I/O, 4 GND, 5 I/O, 6 I/O, 7 TMS, 8 I/O, 9 VCC, 10 I/O, 11 GND, 12 I/O, 13 I/O, 14 I/O, 15 I/O, 16 GND, 17 VCC, 18 I/O, 19 I/O, 20 I/O, 21 I/O, 22 I/O, 23 I/O, 24 GND, 25 I/O, 26 TCK, 27 I/O, 28 I/O, 29 VCC, 30 GND, 31 I/O, 32 TDO, 33 I/O, 34 I/O, 35 I/O, 36 GND, 37 CLK1, 38 OE1, 39 CLR, 40 OE2/CLK2, 41 VCC, 42 I/O, 43 I/O, 44 I/O

## ESP8266A
designator U?
footprint QFN-32
pins: 1 VDDA, 2 LNA, 3 VDD3P3(PA), 4 VDD3P3(PA), 5 VDD_RTC(NC), 6 TOUT(ADC), 7 CHIP_EN, 8 XPD_DCDC/GPIO16(O), 9 MTMS/GPIO14/HSPICLK/SCL, 10 MTDI/GPIO12/HSPIQ, 11 VDDPST, 12 MTCK/GPIO13/HSPID, 13 MTDO/GPIO15/HSPICS, 14 GPIO2(O)/U1TXD/SDA, 15 GPIO0/SPICS2(O), 16 GPIO4, 17 VDDPST, 18 SD_DATA_2/SPIHD/GPIO9, 19 SD_DATA_3/SPIWD/GPIO10, 20 SD_CMD/SPICS0, 21 SD_CLK/SPICLK, 22 SD_DATA_0/SPIQ, 23 SD_DATA_1/SPID, 24 GPIO5, 25 U0RXD/GPIO3, 26 U0TXD/SPICS1/GPIO1(O), 27 XTAL_OUT, 28 XTAL_IN, 29 VDDD, 30 VDDA, 31 RES12K, 32 EXT_RSTB, 33 GND
text: Down:  IO0=0,    IO15=0;IO2=X/1,IO1=X/1; Run   :  IO0=X/1,IO15=0;IO2=X/1,IO1=X/1

## ESP-12
designator U?
ESP-12; IC: *; Vendor: *
footprint ESP-12
pins: 1 ~{RST}, 2 ADC/TOUT, 3 EN, 4 GPIO16(O)/~{WAKE}, 5 GPIO14/HSPICLK, 6 GPIO12/HSPIQ, 7 GPIO13/HSPID/CTS0/RXD2, 8 VDD, 9 GND, 10 GPIO15/HSPICS/RTS0/TXD2, 11 GPIO2(O)/TXD1, 12 GPIO0(O)/SPICS2, 13 GPIO4, 14 GPIO5, 15 GPIO3/RXD0, 16 GPIO1(O)/SPICS1/TXD0

## ESP-12E
designator U?
ESP-12; IC: *; Vendor: *
pins: 1 ~{RST}, 2 ADC/TOUT, 3 EN, 4 GPIO16(O)/XPD_DCDC, 5 GPIO14, 6 GPIO12, 7 GPIO13/RXD2, 8 VDD, 9 GND, 10 GPIO15/TXD2, 11 GPIO2(O)/TXD1, 12 GPIO0(O)/SPICS2, 13 GPIO4, 14 GPIO5, 15 GPIO3/RXD0, 16 GPIO1(O)/SPICS1/TXD0, 17 CS, 18 DO, 19 GPIO10, 20 CLK, 21 DI, 22 GPIO9

## ESP-13
designator U?
ESP-13
pins: 1 VDD, 2 EN, 3 GPIO14, 4 GPIO12, 5 GPIO13, 6 GPIO15, 7 UART1_TXD/GPIO2, 8 GPIO0, 9 GND, 10 GPIO4, 11 UART0_RXD/GPIO3, 12 UART0_TXD/GPIO1, 13 GND, 14 GPIO5, 15 RST, 16 TOUT, 17 GPIO16, 18 GND

## ESP_WROOM_32
designator U?
footprint ESP32_MODULE
pins: 1 GND (power), 2 3V3 (power), 3 EN, 4 SENSOR_VP/IO36, 5 SENSOR_VN/IO39, 6 IO34, 7 IO35, 8 IO32, 9 IO33, 10 IO25/EMAC_RXD0, 11 IO26/EMAC_RXD1, 12 IO27/EMAC_RX_DV, 13 IO14, 14 IO12, 15 GND (power), 16 IO13/EMAC_RX_ER, 17 SD2, 18 SD3, 19 CMD, 20 CLK, 21 SD0, 22 SD1, 23 IO15, 24 IO2, 25 EMAC_TX_CLK/IO0, 26 IO4, 27 EMAC_CLK_OUT/U2RXD/IO16, 28 U2TXD/IO17, 29 IO5, 30 IO18, 31 EMAC_TXD0/IO19, 32 NC/IO20, 33 EMAC_TX_EN/IO21, 34 U0RXD/IO3, 35 U0TXD/IO1, 36 EMAC_TXD1/IO22, 37 IO23, 38 GND

## FB
designator *
footprint L0603
pins: 1 (power), 2 (power)

## FGD12864-7565R-28P2
designator LCD?
pins: 1 VDD, 2 C86, 3 VSS, 4 V0, 5 V1, 6 V2, 7 V3, 8 V4, 9 CAP2-, 10 CAP2+, 11 CAP1+, 12 CAP1-, 13 CAP3+, 14 VOUT, 15 VSS, 16 D7, 17 D6, 18 D5, 19 D4, 20 D3, 21 D2, 22 D1, 23 D0, 24 /RD, 25 /WR, 26 A0, 27 RES, 28 /CS1

## FM1188MK
designator U?
NC Moudle
footprint FM1188MK
pins: 1 LINE_OUT, 2 A_GND, 3 SPK_P, 4 SPK_N, 5 GND, 6 VCC, 7 MIC1-, 8 MIC1+, 9 MIC0-, 10 MIC0+, 11 HP_AGND, 12 LINE_IN

## FM2010-NE
designator U?
Chip
footprint QFN-48
pins: 1 NC, 2 VREF, 3 LINE_IN_P, 4 NC, 5 LINE_IN_N, 6 LINE_OUT, 7 NC, 8 VCOM, 9 VDD_CODEC, 10 NC, 11 XTAL_IN, 12 NC, 13 NC, 14 XTAL_OUT, 15 NC, 16 IRQ_ANA, 17 GND, 18 NC, 19 VDD, 20 SHI_S, 21 nRESET, 22 NC, 23 SDA, 24 NC, 25 NC, 26 NC, 27 SCK, 28 NC, 29 NC, 30 NC, 31 nPWD, 32 NC, 33 NC, 34 TEST, 35 MIC1_N, 36 NC, 37 NC, 38 MIC1_P, 39 MIC0_N, 40 MIC0_P, 41 NC, 42 NC, 43 NC, 44 NC, 45 NC, 46 NC, 47 VSS_CODEC, 48 NC

## FS8205
designator U?
footprint SOT-23-6
pins: 1, 2 (in), 3, 4 (in), 5 (in), 6 (in)

## FS8205A
designator U?
footprint TSSOP-8
pins: 1 (in), 2, 3, 4 (in), 5 (in), 6, 7, 8 (in)

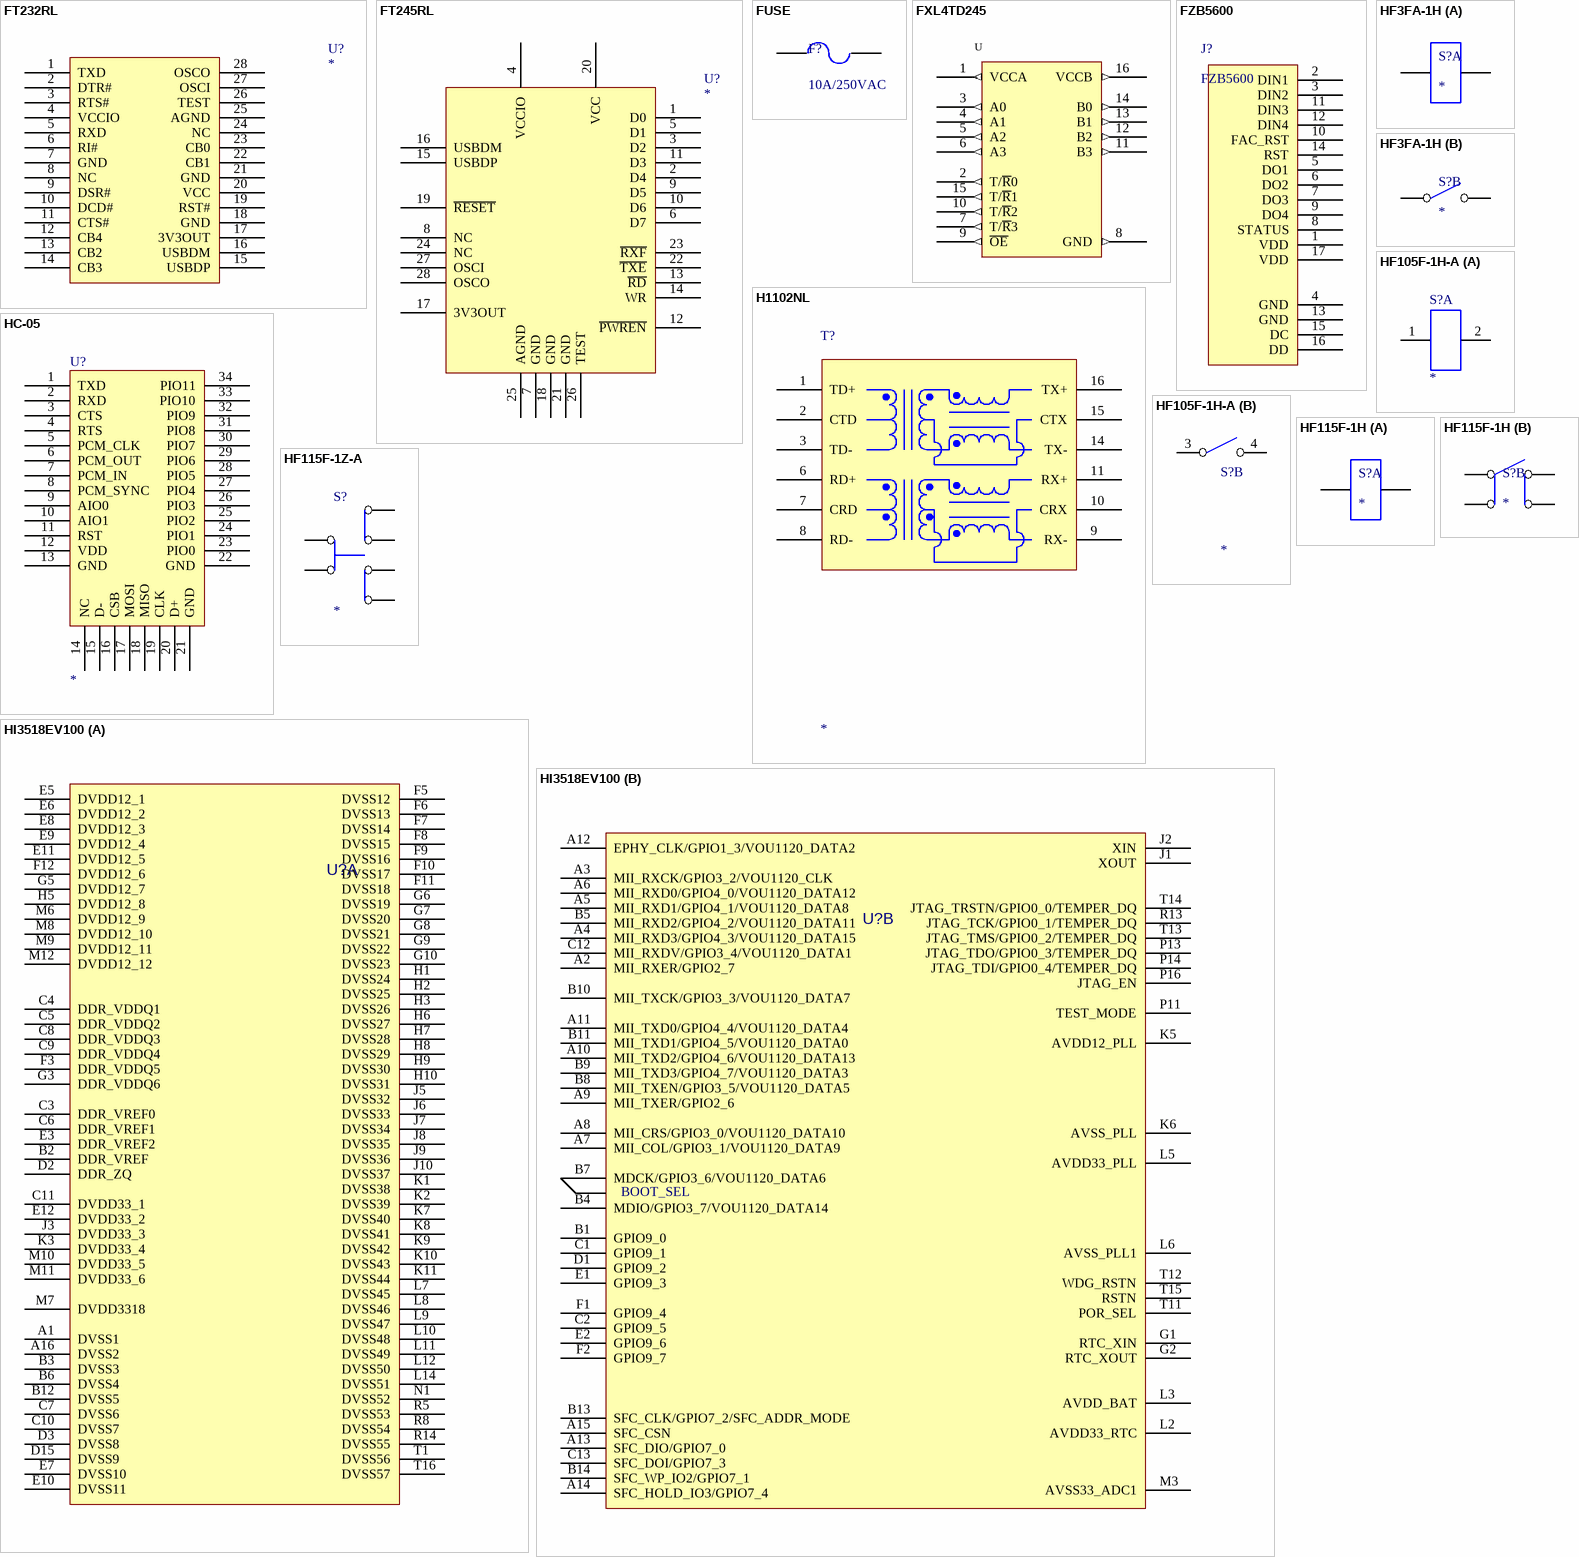
[diagram p5: symbols FT232RL to HI3518EV100]

## FT232RL
designator U?
footprint TSSOP-28
pins: 1 TXD, 2 DTR#, 3 RTS#, 4 VCCIO, 5 RXD, 6 RI#, 7 GND, 8 NC, 9 DSR#, 10 DCD#, 11 CTS#, 12 CB4, 13 CB2, 14 CB3, 15 USBDP, 16 USBDM, 17 3V3OUT, 18 GND, 19 RST#, 20 VCC, 21 GND, 22 CB1, 23 CB0, 24 NC, 25 AGND, 26 TEST, 27 OSCI, 28 OSCO

## FT245RL
designator U?
footprint TSSOP-28
pins: 1 D0, 2 D4, 3 D2, 4 VCCIO, 5 D1, 6 D7, 7 GND, 8 NC, 9 D5, 10 D6, 11 D3, 12 ~{PWREN}, 13 ~{RD}, 14 WR, 15 USBDP, 16 USBDM, 17 3V3OUT, 18 GND, 19 ~{RESET}, 20 VCC, 21 GND, 22 ~{TXE}, 23 ~{RXF}, 24 NC, 25 AGND, 26 TEST, 27 OSCI, 28 OSCO

## FUSE
designator F?, comment 10A/250VAC
Fuse
footprint FUSE1
footprint FUSE4
pins: 1, 2

## FXL4TD245
designator U
FXL4TD245
pins: 1 VCCA (out), 2 T/~{R}0 (out), 3 A0 (out), 4 A1 (out), 5 A2 (out), 6 A3 (out), 7 T/~{R}3 (out), 8 GND (out), 9 ~{OE} (out), 10 T/~{R}2 (out), 11 B3 (out), 12 B2 (out), 13 B1 (out), 14 B0 (out), 15 T/~{R}1 (out), 16 VCCB (out)

## FZB5600
designator J?
Zigbee Moudle
footprint FZB5600
pins: 1 VDD, 2 DIN1, 3 DIN2, 4 GND, 5 DO1, 6 DO2, 7 DO3, 8 STATUS, 9 DO4, 10 FAC_RST, 11 DIN3, 12 DIN4, 13 GND, 14 RST, 15 DC, 16 DD, 17 VDD

## H1102NL
designator T?
footprint H1102NL
pins: 1 TD+, 2 CTD, 3 TD-, 6 RD+, 7 CRD, 8 RD-, 9 RX-, 10 CRX, 11 RX+, 14 TX-, 15 CTX, 16 TX+

## HC-05
designator U?
footprint HC-05
pins: 1 TXD, 2 RXD, 3 CTS, 4 RTS, 5 PCM_CLK, 6 PCM_OUT, 7 PCM_IN, 8 PCM_SYNC, 9 AIO0, 10 AIO1, 11 RST, 12 VDD, 13 GND, 14 NC, 15 D-, 16 CSB, 17 MOSI, 18 MISO, 19 CLK, 20 D+, 21 GND, 22 GND, 23 PIO0, 24 PIO1, 25 PIO2, 26 PIO3, 27 PIO4, 28 PIO5, 29 PIO6, 30 PIO7, 31 PIO8, 32 PIO9, 33 PIO10, 34 PIO11

## HF3FA-1H
designator S?
Relay
footprint HF3FA
part A pins: 1, 2
part B pins: 3, 4

## HF105F-1H-A
designator S?
footprint HF105F-1
part A pins: 1, 2
part B pins: 3, 4

## HF115F-1H
designator S?
Relay
footprint HF115F-1
part A pins: 1, 2
part B pins: 3, 4, 5, 6

## HF115F-1Z-A
designator S?
footprint HF115F-2
pins: 3, 4, 5, 6, 7 OUT, 8 OUT

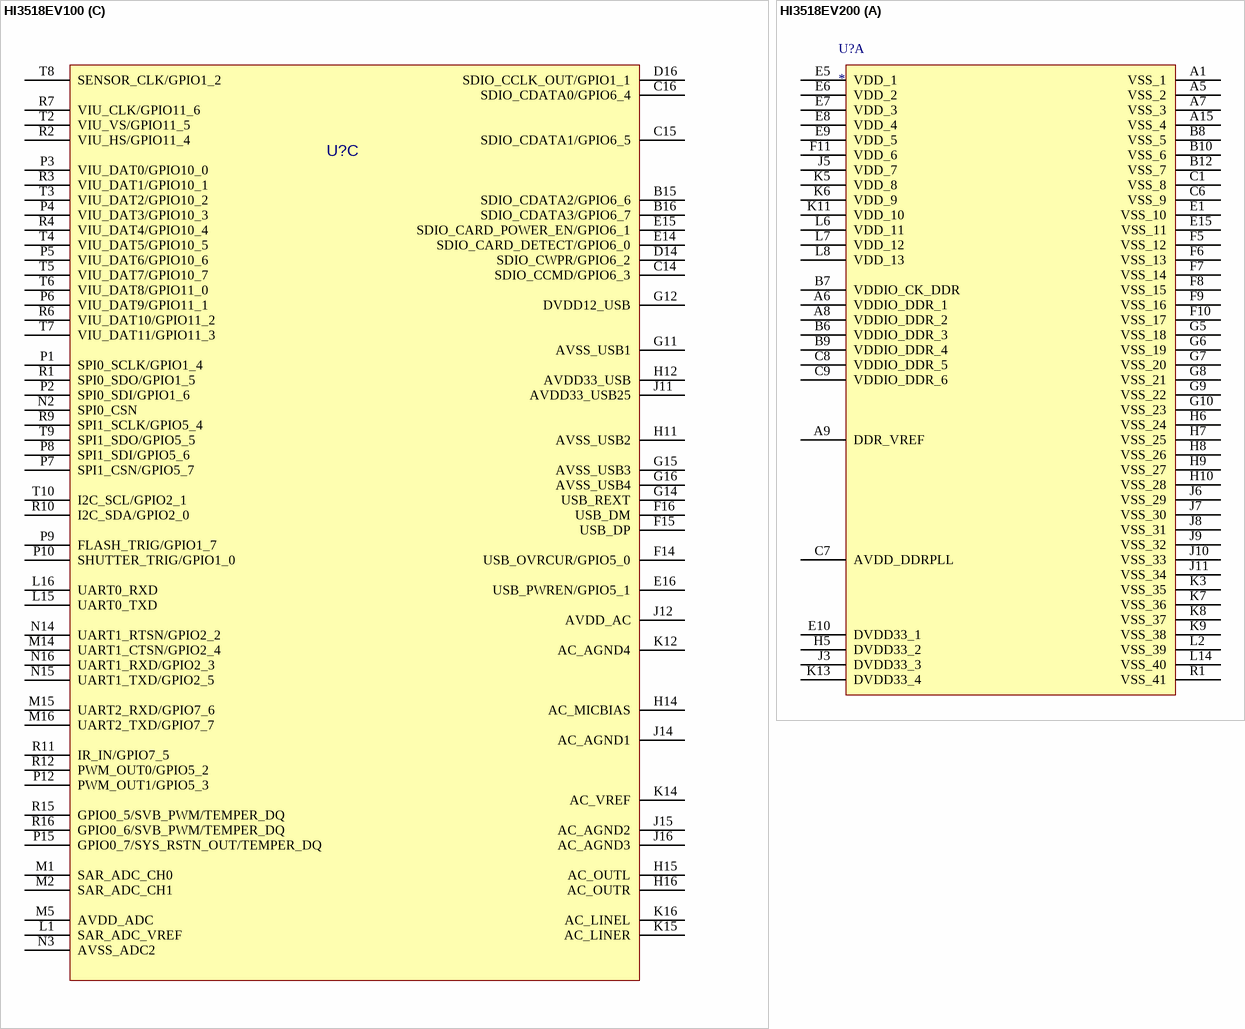
[diagram p6: symbols HI3518EV100 to HI3518EV200]

## HI3518EV100
designator U?
Chip
footprint HI3518EV100
part A pins: A1 DVSS1, A16 DVSS2, B2 DDR_VREF, B3 DVSS3, B6 DVSS4, B12 DVSS5, C3 DDR_VREF0, C4 DDR_VDDQ1, C5 DDR_VDDQ2, C6 DDR_VREF1, C7 DVSS6, C8 DDR_VDDQ3, C9 DDR_VDDQ4, C10 DVSS7, C11 DVDD33_1, D2 DDR_ZQ, D3 DVSS8, D15 DVSS9, E3 DDR_VREF2, E5 DVDD12_1, E6 DVDD12_2, E7 DVSS10, E8 DVDD12_3, E9 DVDD12_4, E10 DVSS11, E11 DVDD12_5, E12 DVDD33_2, F3 DDR_VDDQ5, F5 DVSS12, F6 DVSS13, F7 DVSS14, F8 DVSS15, F9 DVSS16, F10 DVSS17, F11 DVSS18, F12 DVDD12_6, G3 DDR_VDDQ6, G5 DVDD12_7, G6 DVSS19, G7 DVSS20, G8 DVSS21, G9 DVSS22, G10 DVSS23, H1 DVSS24, H2 DVSS25, H3 DVSS26, H5 DVDD12_8, H6 DVSS27, H7 DVSS28, H8 DVSS29, H9 DVSS30, H10 DVSS31, J3 DVDD33_3, J5 DVSS32, J6 DVSS33, J7 DVSS34, J8 DVSS35, J9 DVSS36, J10 DVSS37, K1 DVSS38, K2 DVSS39, K3 DVDD33_4, K7 DVSS40, K8 DVSS41, K9 DVSS42, K10 DVSS43, K11 DVSS44, L7 DVSS45, L8 DVSS46, L9 DVSS47, L10 DVSS48, L11 DVSS49, L12 DVSS50, L14 DVSS51, M6 DVDD12_9, M7 DVDD3318, M8 DVDD12_10, M9 DVDD12_11, M10 DVDD33_5, M11 DVDD33_6, M12 DVDD12_12, N1 DVSS52, R5 DVSS53, R8 DVSS54, R14 DVSS55, T1 DVSS56, T16 DVSS57
part B pins: A2 MII_RXER/GPIO2_7, A3 MII_RXCK/GPIO3_2/VOU1120_CLK, A4 MII_RXD3/GPIO4_3/VOU1120_DATA15, A5 MII_RXD1/GPIO4_1/VOU1120_DATA8, A6 MII_RXD0/GPIO4_0/VOU1120_DATA12, A7 MII_COL/GPIO3_1/VOU1120_DATA9, A8 MII_CRS/GPIO3_0/VOU1120_DATA10, A9 MII_TXER/GPIO2_6, A10 MII_TXD2/GPIO4_6/VOU1120_DATA13, A11 MII_TXD0/GPIO4_4/VOU1120_DATA4, A12 EPHY_CLK/GPIO1_3/VOU1120_DATA2, A13 SFC_DIO/GPIO7_0, A14 SFC_HOLD_IO3/GPIO7_4, A15 SFC_CSN, B1 GPIO9_0, B4 MDIO/GPIO3_7/VOU1120_DATA14, B5 MII_RXD2/GPIO4_2/VOU1120_DATA11, B7 MDCK/GPIO3_6/VOU1120_DATA6, B8 MII_TXEN/GPIO3_5/VOU1120_DATA5, B9 MII_TXD3/GPIO4_7/VOU1120_DATA3, B10 MII_TXCK/GPIO3_3/VOU1120_DATA7, B11 MII_TXD1/GPIO4_5/VOU1120_DATA0, B13 SFC_CLK/GPIO7_2/SFC_ADDR_MODE, B14 SFC_WP_IO2/GPIO7_1, C1 GPIO9_1, C2 GPIO9_5, C12 MII_RXDV/GPIO3_4/VOU1120_DATA1, C13 SFC_DOI/GPIO7_3, D1 GPIO9_2, E1 GPIO9_3, E2 GPIO9_6, F1 GPIO9_4, F2 GPIO9_7, G1 RTC_XIN, G2 RTC_XOUT, J1 XOUT, J2 XIN, K5 AVDD12_PLL, K6 AVSS_PLL, L2 AVDD33_RTC, L3 AVDD_BAT, L5 AVDD33_PLL, L6 AVSS_PLL1, M3 AVSS33_ADC1, P11 TEST_MODE, P13 JTAG_TDO/GPIO0_3/TEMPER_DQ, P14 JTAG_TDI/GPIO0_4/TEMPER_DQ, P16 JTAG_EN, R13 JTAG_TCK/GPIO0_1/TEMPER_DQ, T11 POR_SEL, T12 WDG_RSTN, T13 JTAG_TMS/GPIO0_2/TEMPER_DQ, T14 JTAG_TRSTN/GPIO0_0/TEMPER_DQ, T15 RSTN
part C pins: B15 SDIO_CDATA2/GPIO6_6, B16 SDIO_CDATA3/GPIO6_7, C14 SDIO_CCMD/GPIO6_3, C15 SDIO_CDATA1/GPIO6_5, C16 SDIO_CDATA0/GPIO6_4, D14 SDIO_CWPR/GPIO6_2, D16 SDIO_CCLK_OUT/GPIO1_1, E14 SDIO_CARD_DETECT/GPIO6_0, E15 SDIO_CARD_POWER_EN/GPIO6_1, E16 USB_PWREN/GPIO5_1, F14 USB_OVRCUR/GPIO5_0, F15 USB_DP, F16 USB_DM, G11 AVSS_USB1, G12 DVDD12_USB, G14 USB_REXT, G15 AVSS_USB3, G16 AVSS_USB4, H11 AVSS_USB2, H12 AVDD33_USB, H14 AC_MICBIAS, H15 AC_OUTL, H16 AC_OUTR, J11 AVDD33_USB25, J12 AVDD_AC, J14 AC_AGND1, J15 AC_AGND2, J16 AC_AGND3, K12 AC_AGND4, K14 AC_VREF, K15 AC_LINER, K16 AC_LINEL, L1 SAR_ADC_VREF, L15 UART0_TXD, L16 UART0_RXD, M1 SAR_ADC_CH0, M2 SAR_ADC_CH1, M5 AVDD_ADC, M14 UART1_CTSN/GPIO2_4, M15 UART2_RXD/GPIO7_6, M16 UART2_TXD/GPIO7_7, N2 SPI0_CSN, N3 AVSS_ADC2, N14 UART1_RTSN/GPIO2_2, N15 UART1_TXD/GPIO2_5, N16 UART1_RXD/GPIO2_3, P1 SPI0_SCLK/GPIO1_4, P2 SPI0_SDI/GPIO1_6, P3 VIU_DAT0/GPIO10_0, P4 VIU_DAT3/GPIO10_3, P5 VIU_DAT6/GPIO10_6, P6 VIU_DAT9/GPIO11_1, P7 SPI1_CSN/GPIO5_7, P8 SPI1_SDI/GPIO5_6, P9 FLASH_TRIG/GPIO1_7, P10 SHUTTER_TRIG/GPIO1_0, P12 PWM_OUT1/GPIO5_3, P15 GPIO0_7/SYS_RSTN_OUT/TEMPER_DQ, R1 SPI0_SDO/GPIO1_5, R2 VIU_HS/GPIO11_4, R3 VIU_DAT1/GPIO10_1, R4 VIU_DAT4/GPIO10_4, R6 VIU_DAT10/GPIO11_2, R7 VIU_CLK/GPIO11_6, R9 SPI1_SCLK/GPIO5_4, R10 I2C_SDA/GPIO2_0, R11 IR_IN/GPIO7_5, R12 PWM_OUT0/GPIO5_2, R15 GPIO0_5/SVB_PWM/TEMPER_DQ, R16 GPIO0_6/SVB_PWM/TEMPER_DQ, T2 VIU_VS/GPIO11_5, T3 VIU_DAT2/GPIO10_2, T4 VIU_DAT5/GPIO10_5, T5 VIU_DAT7/GPIO10_7, T6 VIU_DAT8/GPIO11_0, T7 VIU_DAT11/GPIO11_3, T8 SENSOR_CLK/GPIO1_2, T9 SPI1_SDO/GPIO5_5, T10 I2C_SCL/GPIO2_1
part B text: BOOT_SEL

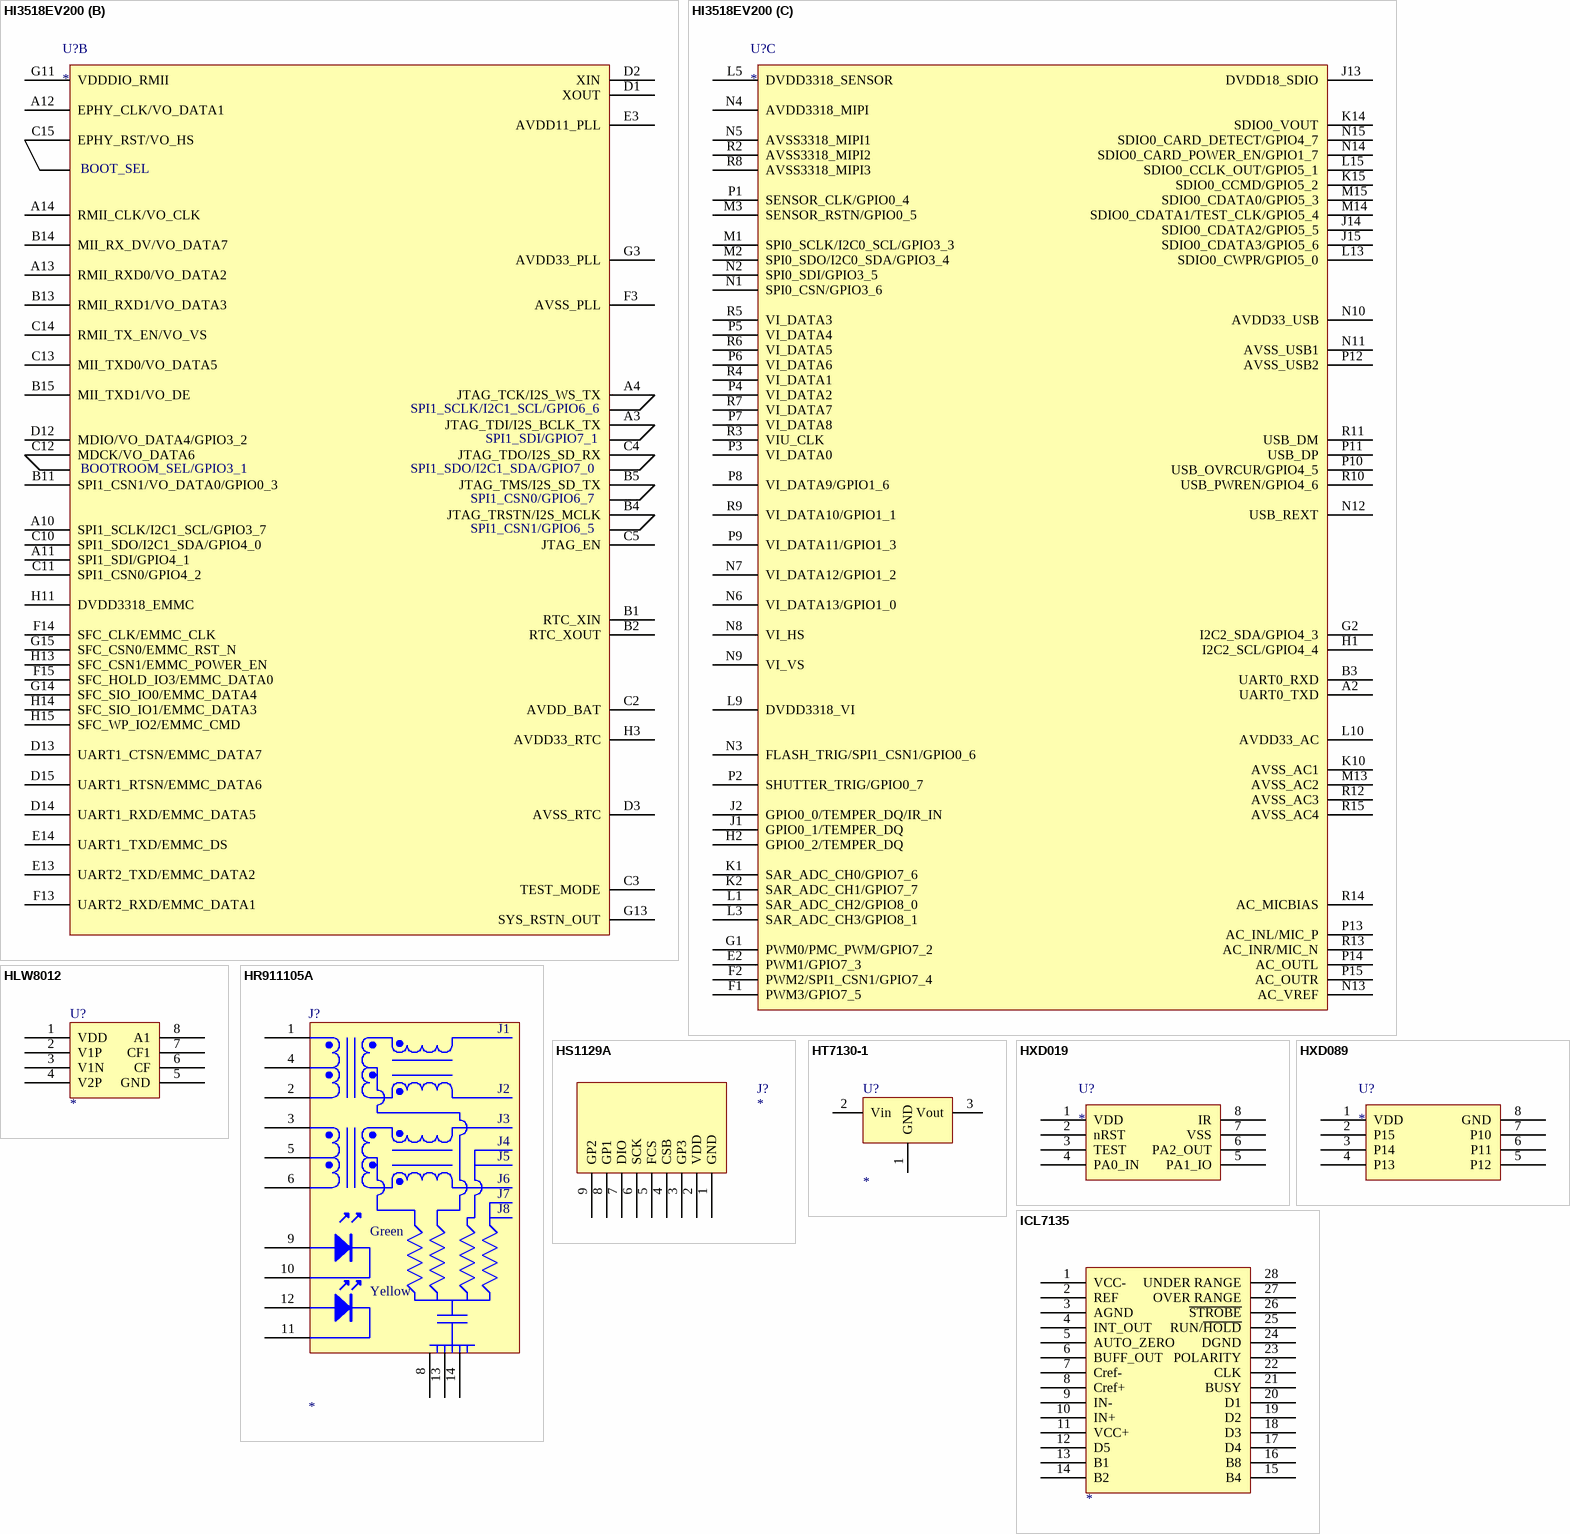
[diagram p7: symbols HI3518EV200 to ICL7135]

## HI3518EV200
designator U?
Chip
footprint HI3518EV200 (BGA192-26-1515)
part A pins: A1 VSS_1, A5 VSS_2, A6 VDDIO_DDR_1, A7 VSS_3, A8 VDDIO_DDR_2, A9 DDR_VREF, A15 VSS_4, B6 VDDIO_DDR_3, B7 VDDIO_CK_DDR, B8 VSS_5, B9 VDDIO_DDR_4, B10 VSS_6, B12 VSS_7, C1 VSS_8, C6 VSS_9, C7 AVDD_DDRPLL, C8 VDDIO_DDR_5, C9 VDDIO_DDR_6, E1 VSS_10, E5 VDD_1, E6 VDD_2, E7 VDD_3, E8 VDD_4, E9 VDD_5, E10 DVDD33_1, E15 VSS_11, F5 VSS_12, F6 VSS_13, F7 VSS_14, F8 VSS_15, F9 VSS_16, F10 VSS_17, F11 VDD_6, G5 VSS_18, G6 VSS_19, G7 VSS_20, G8 VSS_21, G9 VSS_22, G10 VSS_23, H5 DVDD33_2, H6 VSS_24, H7 VSS_25, H8 VSS_26, H9 VSS_27, H10 VSS_28, J3 DVDD33_3, J5 VDD_7, J6 VSS_29, J7 VSS_30, J8 VSS_31, J9 VSS_32, J10 VSS_33, J11 VSS_34, K3 VSS_35, K5 VDD_8, K6 VDD_9, K7 VSS_36, K8 VSS_37, K9 VSS_38, K11 VDD_10, K13 DVDD33_4, L2 VSS_39, L6 VDD_11, L7 VDD_12, L8 VDD_13, L14 VSS_40, R1 VSS_41
part B pins: A3 JTAG_TDI/I2S_BCLK_TX, A4 JTAG_TCK/I2S_WS_TX, A10 SPI1_SCLK/I2C1_SCL/GPIO3_7, A11 SPI1_SDI/GPIO4_1, A12 EPHY_CLK/VO_DATA1, A13 RMII_RXD0/VO_DATA2, A14 RMII_CLK/VO_CLK, B1 RTC_XIN, B2 RTC_XOUT, B4 JTAG_TRSTN/I2S_MCLK, B5 JTAG_TMS/I2S_SD_TX, B11 SPI1_CSN1/VO_DATA0/GPIO0_3, B13 RMII_RXD1/VO_DATA3, B14 MII_RX_DV/VO_DATA7, B15 MII_TXD1/VO_DE, C2 AVDD_BAT, C3 TEST_MODE, C4 JTAG_TDO/I2S_SD_RX, C5 JTAG_EN, C10 SPI1_SDO/I2C1_SDA/GPIO4_0, C11 SPI1_CSN0/GPIO4_2, C12 MDCK/VO_DATA6, C13 MII_TXD0/VO_DATA5, C14 RMII_TX_EN/VO_VS, C15 EPHY_RST/VO_HS, D1 XOUT, D2 XIN, D3 AVSS_RTC, D12 MDIO/VO_DATA4/GPIO3_2, D13 UART1_CTSN/EMMC_DATA7, D14 UART1_RXD/EMMC_DATA5, D15 UART1_RTSN/EMMC_DATA6, E3 AVDD11_PLL, E13 UART2_TXD/EMMC_DATA2, E14 UART1_TXD/EMMC_DS, F3 AVSS_PLL, F13 UART2_RXD/EMMC_DATA1, F14 SFC_CLK/EMMC_CLK, F15 SFC_HOLD_IO3/EMMC_DATA0, G3 AVDD33_PLL, G11 VDDDIO_RMII, G13 SYS_RSTN_OUT, G14 SFC_SIO_IO0/EMMC_DATA4, G15 SFC_CSN0/EMMC_RST_N, H3 AVDD33_RTC, H11 DVDD3318_EMMC, H13 SFC_CSN1/EMMC_POWER_EN, H14 SFC_SIO_IO1/EMMC_DATA3, H15 SFC_WP_IO2/EMMC_CMD
part C pins: A2 UART0_TXD, B3 UART0_RXD, E2 PWM1/GPIO7_3, F1 PWM3/GPIO7_5, F2 PWM2/SPI1_CSN1/GPIO7_4, G1 PWM0/PMC_PWM/GPIO7_2, G2 I2C2_SDA/GPIO4_3, H1 I2C2_SCL/GPIO4_4, H2 GPIO0_2/TEMPER_DQ, J1 GPIO0_1/TEMPER_DQ, J2 GPIO0_0/TEMPER_DQ/IR_IN, J13 DVDD18_SDIO, J14 SDIO0_CDATA2/GPIO5_5, J15 SDIO0_CDATA3/GPIO5_6, K1 SAR_ADC_CH0/GPIO7_6, K2 SAR_ADC_CH1/GPIO7_7, K10 AVSS_AC1, K14 SDIO0_VOUT, K15 SDIO0_CCMD/GPIO5_2, L1 SAR_ADC_CH2/GPIO8_0, L3 SAR_ADC_CH3/GPIO8_1, L5 DVDD3318_SENSOR, L9 DVDD3318_VI, L10 AVDD33_AC, L13 SDIO0_CWPR/GPIO5_0, L15 SDIO0_CCLK_OUT/GPIO5_1, M1 SPI0_SCLK/I2C0_SCL/GPIO3_3, M2 SPI0_SDO/I2C0_SDA/GPIO3_4, M3 SENSOR_RSTN/GPIO0_5, M13 AVSS_AC2, M14 SDIO0_CDATA1/TEST_CLK/GPIO5_4, M15 SDIO0_CDATA0/GPIO5_3, N1 SPI0_CSN/GPIO3_6, N2 SPI0_SDI/GPIO3_5, N3 FLASH_TRIG/SPI1_CSN1/GPIO0_6, N4 AVDD3318_MIPI, N5 AVSS3318_MIPI1, N6 VI_DATA13/GPIO1_0, N7 VI_DATA12/GPIO1_2, N8 VI_HS, N9 VI_VS, N10 AVDD33_USB, N11 AVSS_USB1, N12 USB_REXT, N13 AC_VREF, N14 SDIO0_CARD_POWER_EN/GPIO1_7, N15 SDIO0_CARD_DETECT/GPIO4_7, P1 SENSOR_CLK/GPIO0_4, P2 SHUTTER_TRIG/GPIO0_7, P3 VI_DATA0, P4 VI_DATA2, P5 VI_DATA4, P6 VI_DATA6, P7 VI_DATA8, P8 VI_DATA9/GPIO1_6, P9 VI_DATA11/GPIO1_3, P10 USB_OVRCUR/GPIO4_5, P11 USB_DP, P12 AVSS_USB2, P13 AC_INL/MIC_P, P14 AC_OUTL, P15 AC_OUTR, R2 AVSS3318_MIPI2, R3 VIU_CLK, R4 VI_DATA1, R5 VI_DATA3, R6 VI_DATA5, R7 VI_DATA7, R8 AVSS3318_MIPI3, R9 VI_DATA10/GPIO1_1, R10 USB_PWREN/GPIO4_6, R11 USB_DM, R12 AVSS_AC3, R13 AC_INR/MIC_N, R14 AC_MICBIAS, R15 AVSS_AC4
part B text: BOOT_SEL; SPI1_SCLK/I2C1_SCL/GPIO6_6; SPI1_SDI/GPIO7_1; BOOTROOM_SEL/GPIO3_1; SPI1_SDO/I2C1_SDA/GPIO7_0; SPI1_CSN0/GPIO6_7; SPI1_CSN1/GPIO6_5

## HLW8012
designator U?
footprint SOP-8
pins: 1 VDD, 2 V1P, 3 V1N, 4 V2P, 5 GND, 6 CF, 7 CF1, 8 A1

## HR911105A
designator J?
footprint HR911105A
pins: 1, 2, 3, 4, 5, 6, 8, 9, 10, 11, 12, 13, 14
text: J1; J2; J3; J4; J5; J6; J7; J8; Green; Yellow

## HS1129A
designator J?
footprint HS1129A
pins: 1 GND, 2 VDD, 3 GP3, 4 CSB, 5 FCS, 6 SCK, 7 DIO, 8 GP1, 9 GP2

## HT7130-1
designator U?
footprint SOT-89
pins: 1 GND, 2 Vin, 3 Vout

## HXD019
designator U?
footprint SOP-8
footprint DFN-8-HXD
pins: 1 VDD (power), 2 nRST, 3 TEST, 4 PA0_IN, 5 PA1_IO, 6 PA2_OUT, 7 VSS, 8 IR

## HXD089
designator U?
footprint SOP-8
pins: 1 VDD (power), 2 P15, 3 P14, 4 P13, 5 P12, 6 P11, 7 P10, 8 GND

## ICL7135
designator ?
pins: 1 VCC-, 2 REF, 3 AGND, 4 INT_OUT, 5 AUTO_ZERO, 6 BUFF_OUT, 7 Cref-, 8 Cref+, 9 IN-, 10 IN+, 11 VCC+, 12 D5, 13 B1, 14 B2, 15 B4, 16 B8, 17 D4, 18 D3, 19 D2, 20 D1, 21 BUSY, 22 CLK, 23 POLARITY, 24 DGND, 25 RUN/~{HOLD}, 26 ~{STROBE}, 27 OVER RANGE, 28 UNDER RANGE

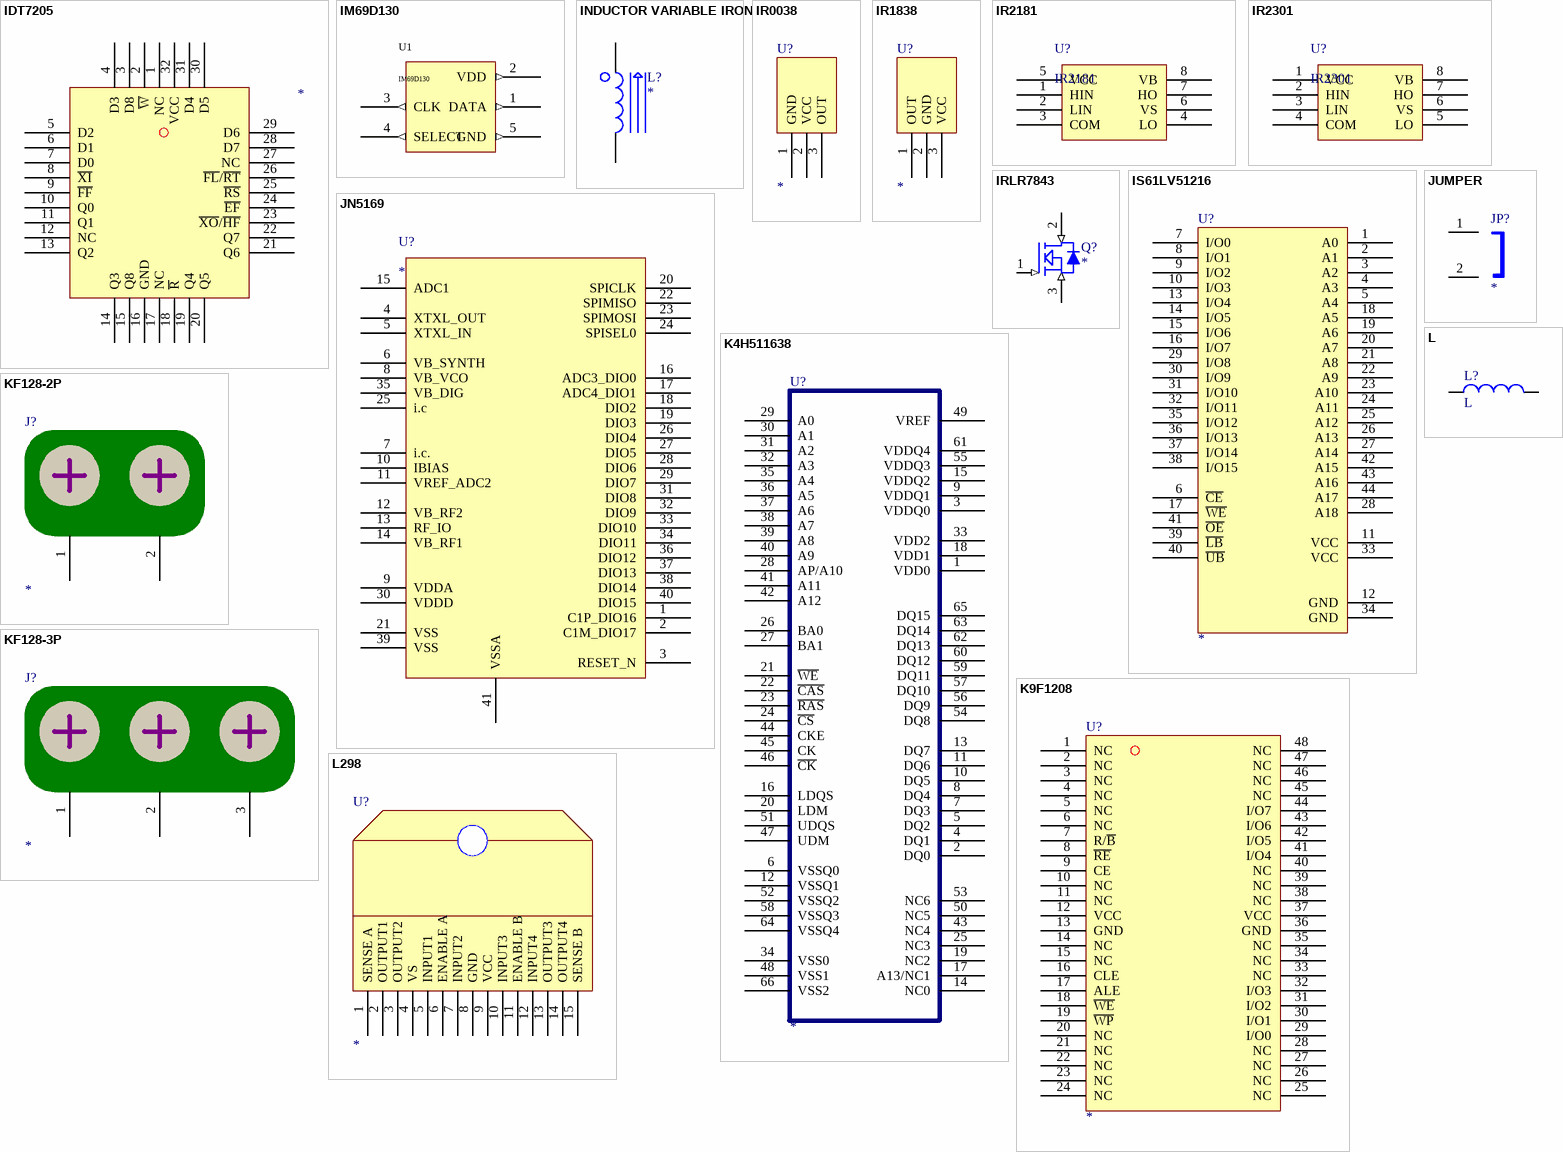
[diagram p8: symbols IDT7205 to L298]

## IDT7205
designator ?
pins: 1 NC, 2 ~{W}, 3 D8, 4 D3, 5 D2, 6 D1, 7 D0, 8 ~{XI}, 9 ~{FF}, 10 Q0, 11 Q1, 12 NC, 13 Q2, 14 Q3, 15 Q8, 16 GND, 17 NC, 18 ~{R}, 19 Q4, 20 Q5, 21 Q6, 22 Q7, 23 ~{XO}/~{HF}, 24 ~{EF}, 25 ~{RS}, 26 ~{FL}/~{RT}, 27 NC, 28 D7, 29 D6, 30 D5, 31 D4, 32 VCC

## IM69D130
designator U1
footprint IM69D130 - duplicate (Microphone)
pins: 1 DATA (out), 2 VDD (out), 3 CLK (out), 4 SELECT (out), 5 GND (out)

## INDUCTOR VARIABLE IRON
designator L?
pins: 1, 2

## IR0038
designator U?
footprint IR0038
pins: 1 GND, 2 VCC, 3 OUT

## IR1838
designator U?
footprint IR1838
pins: 1 OUT, 2 GND, 3 VCC

## IR2181
designator U?
MOSFET DRIVER
footprint SOP-8
pins: 1 HIN, 2 LIN, 3 COM, 4 LO, 5 VCC, 6 VS, 7 HO, 8 VB

## IR2301
designator U?
MOSFET DRIVER
footprint SOP-8
pins: 1 VCC, 2 HIN, 3 LIN, 4 COM, 5 LO, 6 VS, 7 HO, 8 VB

## IRLR7843
designator Q?
footprint TO-252
pins: 1 (in), 2 (in), 3 (in)

## IS61LV51216
designator U?
footprint TSOP-44
pins: 1 A0, 2 A1, 3 A2, 4 A3, 5 A4, 6 ~{CE}, 7 I/O0, 8 I/O1, 9 I/O2, 10 I/O3, 11 VCC, 12 GND, 13 I/O4, 14 I/O5, 15 I/O6, 16 I/O7, 17 ~{WE}, 18 A5, 19 A6, 20 A7, 21 A8, 22 A9, 23 A10, 24 A11, 25 A12, 26 A13, 27 A14, 28 A18, 29 I/O8, 30 I/O9, 31 I/O10, 32 I/O11, 33 VCC, 34 GND, 35 I/O12, 36 I/O13, 37 I/O14, 38 I/O15, 39 ~{LB}, 40 ~{UB}, 41 ~{OE}, 42 A15, 43 A16, 44 A17

## JN5169
designator U?
Chip
footprint QFN-40
pins: 1 C1P_DIO16, 2 C1M_DIO17, 3 RESET_N, 4 XTXL_OUT, 5 XTXL_IN, 6 VB_SYNTH, 7 i.c., 8 VB_VCO, 9 VDDA, 10 IBIAS, 11 VREF_ADC2, 12 VB_RF2, 13 RF_IO, 14 VB_RF1, 15 ADC1, 16 ADC3_DIO0, 17 ADC4_DIO1, 18 DIO2, 19 DIO3, 20 SPICLK, 21 VSS, 22 SPIMISO, 23 SPIMOSI, 24 SPISEL0, 25 i.c, 26 DIO4, 27 DIO5, 28 DIO6, 29 DIO7, 30 VDDD, 31 DIO8, 32 DIO9, 33 DIO10, 34 DIO11, 35 VB_DIG, 36 DIO12, 37 DIO13, 38 DIO14, 39 VSS, 40 DIO15, 41 VSSA

## JUMPER
designator JP?
Jumper
pins: 1, 2

## K4H511638
designator U?
DDR SDRAM
pins: 1 VDD0, 2 DQ0, 3 VDDQ0, 4 DQ1, 5 DQ2, 6 VSSQ0, 7 DQ3, 8 DQ4, 9 VDDQ1, 10 DQ5, 11 DQ6, 12 VSSQ1, 13 DQ7, 14 NC0, 15 VDDQ2, 16 LDQS, 17 A13/NC1, 18 VDD1, 19 NC2, 20 LDM, 21 ~{WE}, 22 ~{CAS}, 23 ~{RAS}, 24 ~{CS}, 25 NC3, 26 BA0, 27 BA1, 28 AP/A10, 29 A0, 30 A1, 31 A2, 32 A3, 33 VDD2, 34 VSS0, 35 A4, 36 A5, 37 A6, 38 A7, 39 A8, 40 A9, 41 A11, 42 A12, 43 NC4, 44 CKE, 45 CK, 46 ~{CK}, 47 UDM, 48 VSS1, 49 VREF, 50 NC5, 51 UDQS, 52 VSSQ2, 53 NC6, 54 DQ8, 55 VDDQ3, 56 DQ9, 57 DQ10, 58 VSSQ3, 59 DQ11, 60 DQ12, 61 VDDQ4, 62 DQ13, 63 DQ14, 64 VSSQ4, 65 DQ15, 66 VSS2

## K9F1208
designator U?
footprint SOPP48
pins: 1 NC, 2 NC, 3 NC, 4 NC, 5 NC, 6 NC, 7 R/~{B}, 8 ~{RE}, 9 CE, 10 NC, 11 NC, 12 VCC, 13 GND, 14 NC, 15 NC, 16 CLE, 17 ALE, 18 ~{WE}, 19 ~{WP}, 20 NC, 21 NC, 22 NC, 23 NC, 24 NC, 25 NC, 26 NC, 27 NC, 28 NC, 29 I/O0, 30 I/O1, 31 I/O2, 32 I/O3, 33 NC, 34 NC, 35 NC, 36 GND, 37 VCC, 38 NC, 39 NC, 40 NC, 41 I/O4, 42 I/O5, 43 I/O6, 44 I/O7, 45 NC, 46 NC, 47 NC, 48 NC

## KF128-2P
designator J?
footprint KF128-7.5-2P
footprint KF128-5.0-2P
pins: 1, 2

## KF128-3P
designator J?
footprint KF128-7.5-3P
footprint KF128-5.0-3P
pins: 1, 2, 3

## L
designator L?
Inductor
footprint L0805
footprint L0603
footprint L0402
pins: 1, 2

## L298
designator U?
footprint L298
pins: 1 SENSE A, 2 OUTPUT1, 3 OUTPUT2, 4 VS, 5 INPUT1, 6 ENABLE A, 7 INPUT2, 8 GND, 9 VCC, 10 INPUT3, 11 ENABLE B, 12 INPUT4, 13 OUTPUT3, 14 OUTPUT4, 15 SENSE B

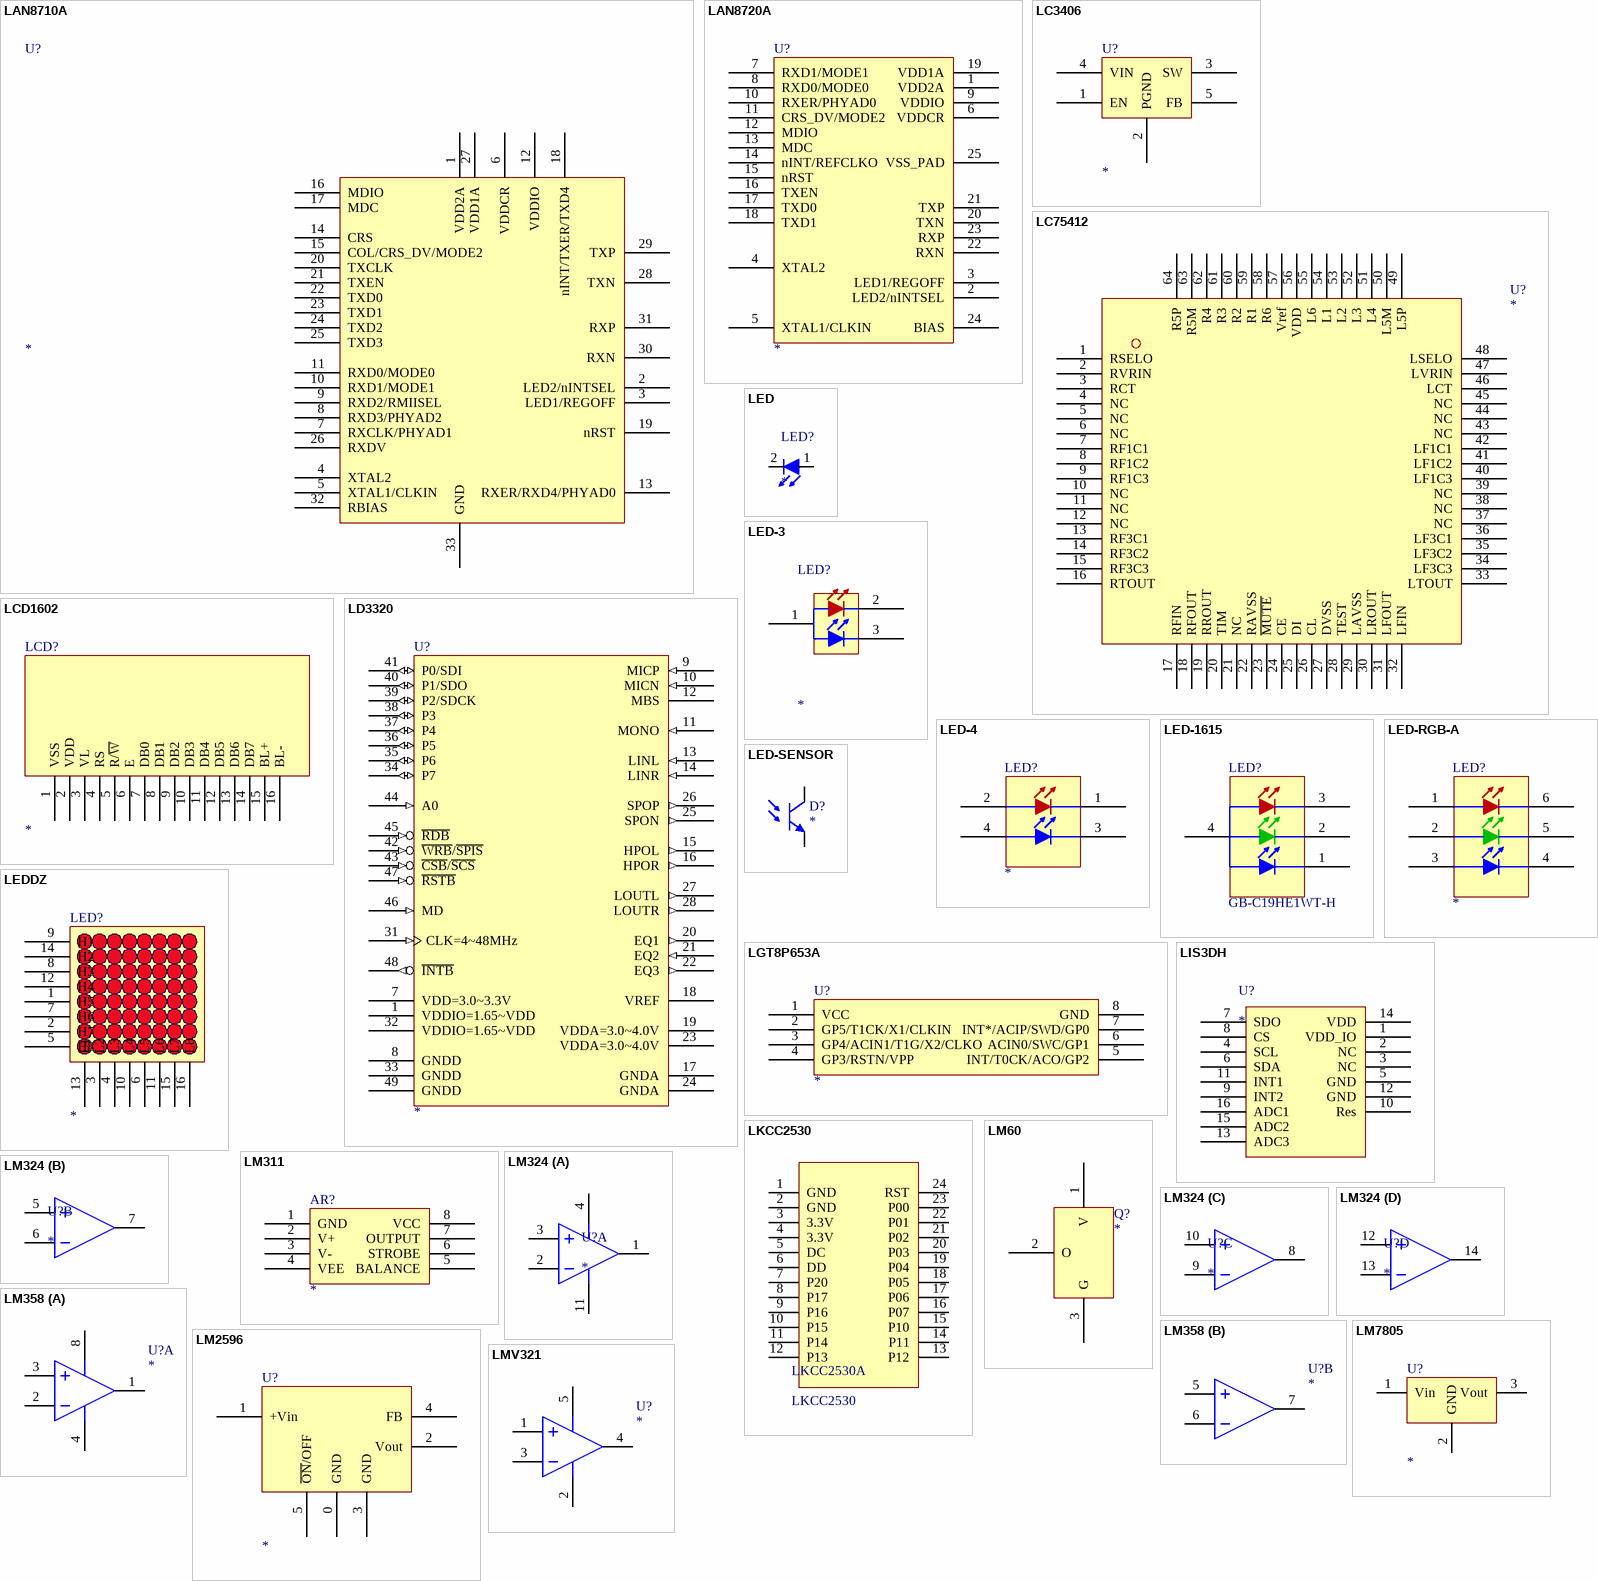
[diagram p9: symbols LAN8710A to LMV321]

## LAN8710A
designator U?
footprint QFN-32
pins: 1 VDD2A, 2 LED2/nINTSEL, 3 LED1/REGOFF, 4 XTAL2, 5 XTAL1/CLKIN, 6 VDDCR, 7 RXCLK/PHYAD1, 8 RXD3/PHYAD2, 9 RXD2/RMIISEL, 10 RXD1/MODE1, 11 RXD0/MODE0, 12 VDDIO, 13 RXER/RXD4/PHYAD0, 14 CRS, 15 COL/CRS_DV/MODE2, 16 MDIO, 17 MDC, 18 nINT/TXER/TXD4, 19 nRST, 20 TXCLK, 21 TXEN, 22 TXD0, 23 TXD1, 24 TXD2, 25 TXD3, 26 RXDV, 27 VDD1A, 28 TXN, 29 TXP, 30 RXN, 31 RXP, 32 RBIAS, 33 GND

## LAN8720A
designator U?
Chip
footprint QFN-24
pins: 1 VDD2A, 2 LED2/nINTSEL, 3 LED1/REGOFF, 4 XTAL2, 5 XTAL1/CLKIN, 6 VDDCR, 7 RXD1/MODE1, 8 RXD0/MODE0, 9 VDDIO, 10 RXER/PHYAD0, 11 CRS_DV/MODE2, 12 MDIO, 13 MDC, 14 nINT/REFCLKO, 15 nRST, 16 TXEN, 17 TXD0, 18 TXD1, 19 VDD1A, 20 TXN, 21 TXP, 22 RXN, 23 RXP, 24 BIAS, 25 VSS_PAD

## LC3406
designator U?
footprint SOT-23-5
pins: 1 EN, 2 PGND, 3 SW, 4 VIN, 5 FB

## LC75412
designator U?
pins: 1 RSELO, 2 RVRIN, 3 RCT, 4 NC, 5 NC, 6 NC, 7 RF1C1, 8 RF1C2, 9 RF1C3, 10 NC, 11 NC, 12 NC, 13 RF3C1, 14 RF3C2, 15 RF3C3, 16 RTOUT, 17 RFIN, 18 RFOUT, 19 RROUT, 20 TIM, 21 NC, 22 RAVSS, 23 ~{MUTE}, 24 CE, 25 DI, 26 CL, 27 DVSS, 28 TEST, 29 LAVSS, 30 LROUT, 31 LFOUT, 32 LFIN, 33 LTOUT, 34 LF3C3, 35 LF3C2, 36 LF3C1, 37 NC, 38 NC, 39 NC, 40 LF1C3, 41 LF1C2, 42 LF1C1, 43 NC, 44 NC, 45 NC, 46 LCT, 47 LVRIN, 48 LSELO, 49 L5P, 50 L5M, 51 L4, 52 L3, 53 L2, 54 L1, 55 L6, 56 VDD, 57 Vref, 58 R6, 59 R1, 60 R2, 61 R3, 62 R4, 63 R5M, 64 R5P

## LCD1602
designator LCD?
footprint SIP-16
pins: 1 VSS, 2 VDD, 3 VL, 4 RS, 5 R/~{W}, 6 E, 7 DB0, 8 DB1, 9 DB2, 10 DB3, 11 DB4, 12 DB5, 13 DB6, 14 DB7, 15 BL+, 16 BL-

## LD3320
designator U?
footprint LD3220
pins: 1 VDDIO=1.65~VDD (power), 7 VDD=3.0~3.3V (power), 8 GNDD (power), 9 MICP (in), 10 MICN (in), 11 MONO (in), 12 MBS, 13 LINL (in), 14 LINR (in), 15 HPOL (out), 16 HPOR (out), 17 GNDA (power), 18 VREF (power), 19 VDDA=3.0~4.0V (power), 20 EQ1 (out), 21 EQ2 (in), 22 EQ3 (out), 23 VDDA=3.0~4.0V (power), 24 GNDA (power), 25 SPON (out), 26 SPOP (out), 27 LOUTL (out), 28 LOUTR (out), 31 CLK=4~48MHz (in), 32 VDDIO=1.65~VDD (power), 33 GNDD (power), 34 P7 (io), 35 P6 (io), 36 P5 (io), 37 P4 (io), 38 P3 (io), 39 P2/SDCK (io), 40 P1/SDO (io), 41 P0/SDI (io), 42 ~{WRB}/~{SPIS} (in), 43 ~{CSB}/~{SCS} (in), 44 A0 (in), 45 ~{RDB} (in), 46 MD (in), 47 ~{RSTB} (in), 48 ~{INTB} (out), 49 GNDD (power)

## LED
designator LED?
footprint LED0805
footprint LED0603
pins: 1, 2

## LED-3
designator LED?
LED
footprint LED3MM-3
pins: 1, 2, 3

## LED-4
designator LED?
pins: 1, 2, 3, 4

## LED-1615
designator LED?, comment GB-C19HE1WT-H
LED RGB
footprint LED1615
pins: 1, 2, 3, 4

## LED-RGB-A
designator LED?
pins: 1, 2, 3, 4, 5, 6

## LED-SENSOR
designator D?
LED-SENSOR
footprint LED3MM-SENSOR
pins: 1, 2

## LEDDZ
designator LED?
footprint LEDDZ
pins: 1 H5, 2 H7, 3 L2, 4 L3, 5 H8, 6 L5, 7 H6, 8 H3, 9 H1, 10 L4, 11 L6, 12 H4, 13 L1, 14 H2, 15 L7, 16 L8

## LGT8P653A
designator U?
footprint SOP-8
pins: 1 VCC, 2 GP5/T1CK/X1/CLKIN, 3 GP4/ACIN1/T1G/X2/CLKO, 4 GP3/RSTN/VPP, 5 INT/T0CK/ACO/GP2, 6 ACIN0/SWC/GP1, 7 INT*/ACIP/SWD/GP0, 8 GND

## LIS3DH
designator U?
footprint LGA-16
pins: 1 VDD_IO, 2 NC, 3 NC, 4 SCL, 5 GND, 6 SDA, 7 SDO, 8 CS, 9 INT2, 10 Res, 11 INT1, 12 GND, 13 ADC3, 14 VDD, 15 ADC2, 16 ADC1

## LKCC2530
designator LKCC2530A
Zigbee Module
footprint LKCC2530A
footprint LKCC2530B
pins: 1 GND, 2 GND, 3 3.3V, 4 3.3V, 5 DC, 6 DD, 7 P20, 8 P17, 9 P16, 10 P15, 11 P14, 12 P13, 13 P12, 14 P11, 15 P10, 16 P07, 17 P06, 18 P05, 19 P04, 20 P03, 21 P02, 22 P01, 23 P00, 24 RST

## LM60
designator Q?
footprint SOT-23
pins: 1 V, 2 O, 3 G

## LM311
designator AR?
Operational Amplifier
pins: 1 GND, 2 V+, 3 V-, 4 VEE, 5 BALANCE, 6 STROBE, 7 OUTPUT, 8 VCC

## LM324
designator U?
Operational Amplifier
footprint SOP-14
part A pins: 1 OUT, 2 IN-, 3 IN+, 4 V+, 11 V-
part B pins: 5 IN+, 6 IN-, 7 OUT
part C pins: 8 OUT, 9 IN-, 10 IN+
part D pins: 12 IN+, 13 IN-, 14 OUT

## LM358
designator U?
Operational Amplifier
footprint SOP-8
part A pins: 1 OUT, 2 IN-, 3 IN+, 4 V-, 8 V+
part B pins: 5 IN+, 6 IN-, 7 OUT

## LM2596
designator U?
footprint LM2596-S
pins: 0 GND, 1 +Vin, 2 Vout, 3 GND, 4 FB, 5 ~{ON}/OFF

## LM7805
designator U?
footprint TO-220H
footprint TO-220V
pins: 1 Vin, 2 GND, 3 Vout

## LMV321
designator U?
Operational Amplifier
footprint SOT-23-5
pins: 1 +, 2 V-, 3 IN-, 4 OUT, 5 V+

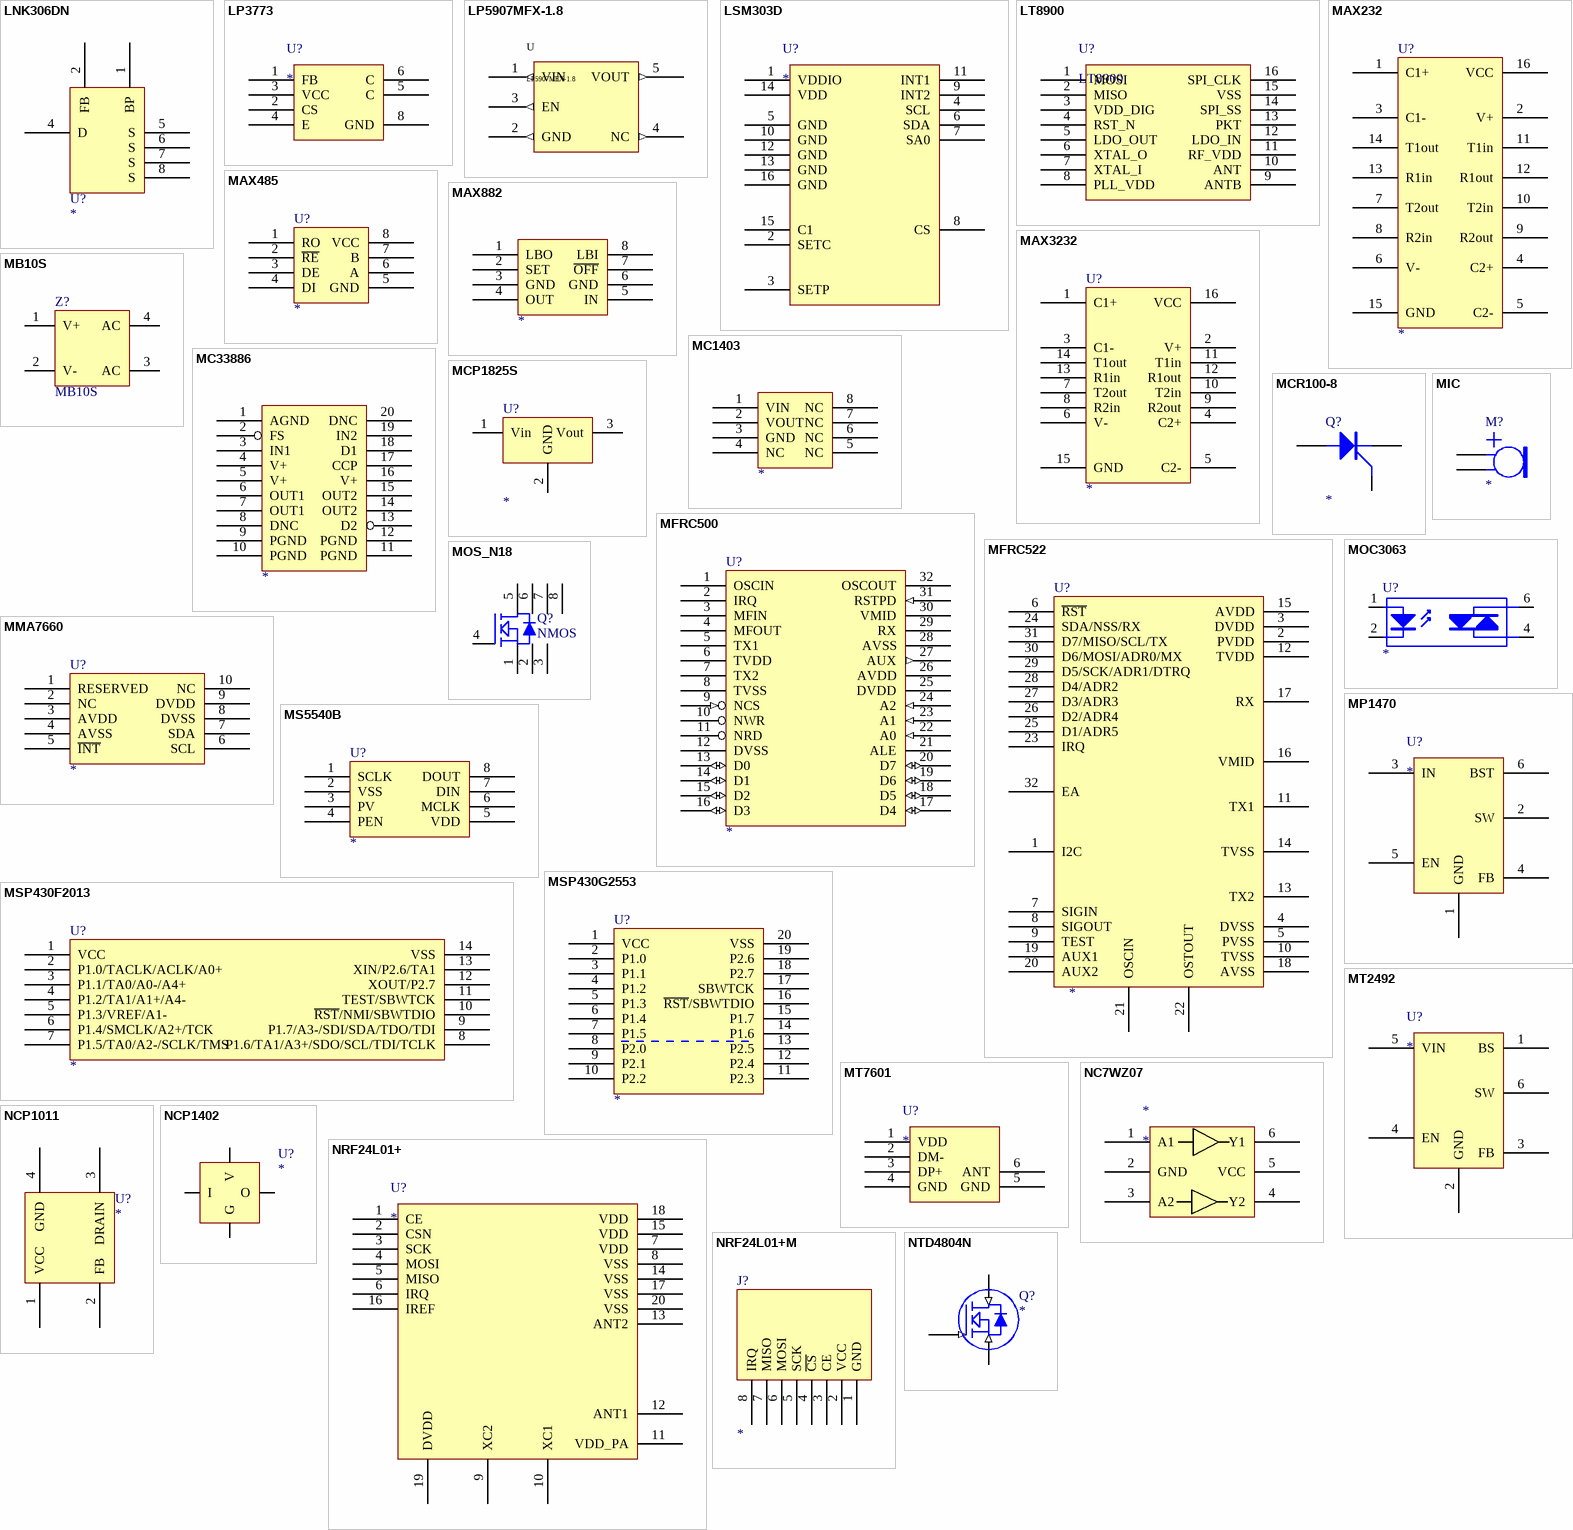
[diagram p10: symbols LNK306DN to NTD4804N]

## LNK306DN
designator U?
footprint SOP-8-3
pins: 1 BP, 2 FB, 4 D, 5 S, 6 S, 7 S, 8 S

## LP3773
designator U?
footprint SOP-8-7
pins: 1 FB, 2 CS, 3 VCC, 4 E, 5 C, 6 C, 8 GND

## LP5907MFX-1.8
designator U
footprint LC-SOT-23-5
pins: 1 VIN (out), 2 GND (out), 3 EN (out), 4 NC (out), 5 VOUT (out)

## LSM303D
designator U?
footprint LGA-16
pins: 1 VDDIO, 2 SETC, 3 SETP, 4 SCL, 5 GND, 6 SDA, 7 SA0, 8 CS, 9 INT2, 10 GND, 11 INT1, 12 GND, 13 GND, 14 VDD, 15 C1, 16 GND

## LT8900
designator U?
footprint TSSOP-16
pins: 1 MOSI, 2 MISO, 3 VDD_DIG, 4 RST_N, 5 LDO_OUT, 6 XTAL_O, 7 XTAL_I, 8 PLL_VDD, 9 ANTB, 10 ANT, 11 RF_VDD, 12 LDO_IN, 13 PKT, 14 SPI_SS, 15 VSS, 16 SPI_CLK

## MAX232
designator U?
footprint SOP-16
pins: 1 C1+, 2 V+, 3 C1-, 4 C2+, 5 C2-, 6 V-, 7 T2out, 8 R2in, 9 R2out, 10 T2in, 11 T1in, 12 R1out, 13 R1in, 14 T1out, 15 GND, 16 VCC

## MAX485
designator U?
footprint SOP-8
pins: 1 RO, 2 ~{RE}, 3 DE, 4 DI, 5 GND, 6 A, 7 B, 8 VCC

## MAX882
designator ?
pins: 1 LBO, 2 SET, 3 GND, 4 OUT, 5 IN, 6 GND, 7 ~{OFF}, 8 LBI

## MAX3232
designator U?
footprint SOP-16
pins: 1 C1+, 2 V+, 3 C1-, 4 C2+, 5 C2-, 6 V-, 7 T2out, 8 R2in, 9 R2out, 10 T2in, 11 T1in, 12 R1out, 13 R1in, 14 T1out, 15 GND, 16 VCC

## MB10S
designator Z?
Diode Bridge
footprint MB6S
pins: 1 V+, 2 V-, 3 AC, 4 AC

## MC1403
designator ?
pins: 1 VIN, 2 VOUT, 3 GND, 4 NC, 5 NC, 6 NC, 7 NC, 8 NC

## MC33886
designator ?
pins: 1 AGND, 2 FS, 3 IN1, 4 V+, 5 V+, 6 OUT1, 7 OUT1, 8 DNC, 9 PGND, 10 PGND, 11 PGND, 12 PGND, 13 D2, 14 OUT2, 15 OUT2, 16 V+, 17 CCP, 18 D1, 19 IN2, 20 DNC

## MCP1825S
designator U?
footprint SOT-223
footprint TO-263
pins: 1 Vin, 2 GND, 3 Vout

## MCR100-8
designator Q?
MCR100-8
footprint MCR100-8
pins: 1 K, 2 G, 3 A

## MFRC500
designator U?
pins: 1 OSCIN, 2 IRQ, 3 MFIN, 4 MFOUT, 5 TX1, 6 TVDD (power), 7 TX2, 8 TVSS (power), 9 NCS (in), 10 NWR, 11 NRD, 12 DVSS (power), 13 D0 (io), 14 D1 (io), 15 D2 (io), 16 D3 (io), 17 D4 (io), 18 D5 (io), 19 D6 (io), 20 D7 (io), 21 ALE, 22 A0 (in), 23 A1 (in), 24 A2 (in), 25 DVDD (power), 26 AVDD (power), 27 AUX (out), 28 AVSS (power), 29 RX, 30 VMID, 31 RSTPD (in), 32 OSCOUT

## MFRC522
designator U?
footprint QFN-32
pins: 1 I2C, 2 PVDD (power), 3 DVDD, 4 DVSS, 5 PVSS, 6 ~{RST}, 7 SIGIN, 8 SIGOUT, 9 TEST, 10 TVSS, 11 TX1, 12 TVDD (power), 13 TX2, 14 TVSS, 15 AVDD (power), 16 VMID, 17 RX, 18 AVSS, 19 AUX1, 20 AUX2, 21 OSCIN, 22 OSTOUT, 23 IRQ, 24 SDA/NSS/RX, 25 D1/ADR5, 26 D2/ADR4, 27 D3/ADR3, 28 D4/ADR2, 29 D5/SCK/ADR1/DTRQ, 30 D6/MOSI/ADR0/MX, 31 D7/MISO/SCL/TX, 32 EA

## MIC
designator M?
Microphone
footprint SIP-2
pins: 1, 2

## MMA7660
designator U?
footprint MMA7660
pins: 1 RESERVED, 2 NC, 3 AVDD, 4 AVSS, 5 ~{INT}, 6 SCL, 7 SDA, 8 DVSS, 9 DVDD, 10 NC

## MOC3063
designator U?
TRIAC
footprint DIP-6
pins: 1 A, 2 K, 4 A/K, 6 A/K

## MOS_N18
designator Q?, comment NMOS
MOSFET
footprint SOP-8
footprint DFN5X6_8L
pins: 1, 2, 3, 4 G, 5, 6, 7, 8

## MP1470
designator U?
footprint SOT-23-6
pins: 1 GND, 2 SW, 3 IN, 4 FB, 5 EN, 6 BST

## MS5540B
designator U?
pins: 1 SCLK, 2 VSS, 3 PV, 4 PEN, 5 VDD, 6 MCLK, 7 DIN, 8 DOUT

## MSP430F2013
designator U?
footprint TSSOP-14
pins: 1 VCC, 2 P1.0/TACLK/ACLK/A0+, 3 P1.1/TA0/A0-/A4+, 4 P1.2/TA1/A1+/A4-, 5 P1.3/VREF/A1-, 6 P1.4/SMCLK/A2+/TCK, 7 P1.5/TA0/A2-/SCLK/TMS, 8 P1.6/TA1/A3+/SDO/SCL/TDI/TCLK, 9 P1.7/A3-/SDI/SDA/TDO/TDI, 10 ~{RST}/NMI/SBWTDIO, 11 TEST/SBWTCK, 12 XOUT/P2.7, 13 XIN/P2.6/TA1, 14 VSS

## MSP430G2553
designator U?
footprint TSSOP-20
pins: 1 VCC, 2 P1.0, 3 P1.1, 4 P1.2, 5 P1.3, 6 P1.4, 7 P1.5, 8 P2.0, 9 P2.1, 10 P2.2, 11 P2.3, 12 P2.4, 13 P2.5, 14 P1.6, 15 P1.7, 16 ~{RST}/SBWTDIO, 17 SBWTCK, 18 P2.7, 19 P2.6, 20 VSS

## MT2492
designator U?
footprint SOT-23-6
pins: 1 BS, 2 GND, 3 FB, 4 EN, 5 VIN, 6 SW

## MT7601
designator U?
footprint MT7601
pins: 1 VDD, 2 DM-, 3 DP+, 4 GND, 5 GND, 6 ANT

## NC7WZ07
designator *
footprint SC70-6
pins: 1 A1, 2 GND, 3 A2, 4 Y2, 5 VCC, 6 Y1

## NCP1011
designator U?
footprint SOT-223
pins: 1 VCC, 2 FB, 3 DRAIN, 4 GND

## NCP1402
designator U?
footprint SOT-23-5
pins: 1 G, 2 V, 3 I, 4 GND hidden to GND, 5 O

## NRF24L01+
designator U?
footprint QFN-20
pins: 1 CE, 2 CSN, 3 SCK, 4 MOSI, 5 MISO, 6 IRQ, 7 VDD, 8 VSS, 9 XC2, 10 XC1, 11 VDD_PA, 12 ANT1, 13 ANT2, 14 VSS, 15 VDD, 16 IREF, 17 VSS, 18 VDD, 19 DVDD, 20 VSS

## NRF24L01+M
designator J?
NRF24L01+M
footprint NRF24L01+M1
footprint NRF24L01+M1
pins: 1 GND, 2 VCC, 3 CE, 4 ~{CS}, 5 SCK, 6 MOSI, 7 MISO, 8 IRQ

## NTD4804N
designator Q?
pins: 1 G (in), 2 D (in), 3 S (in)

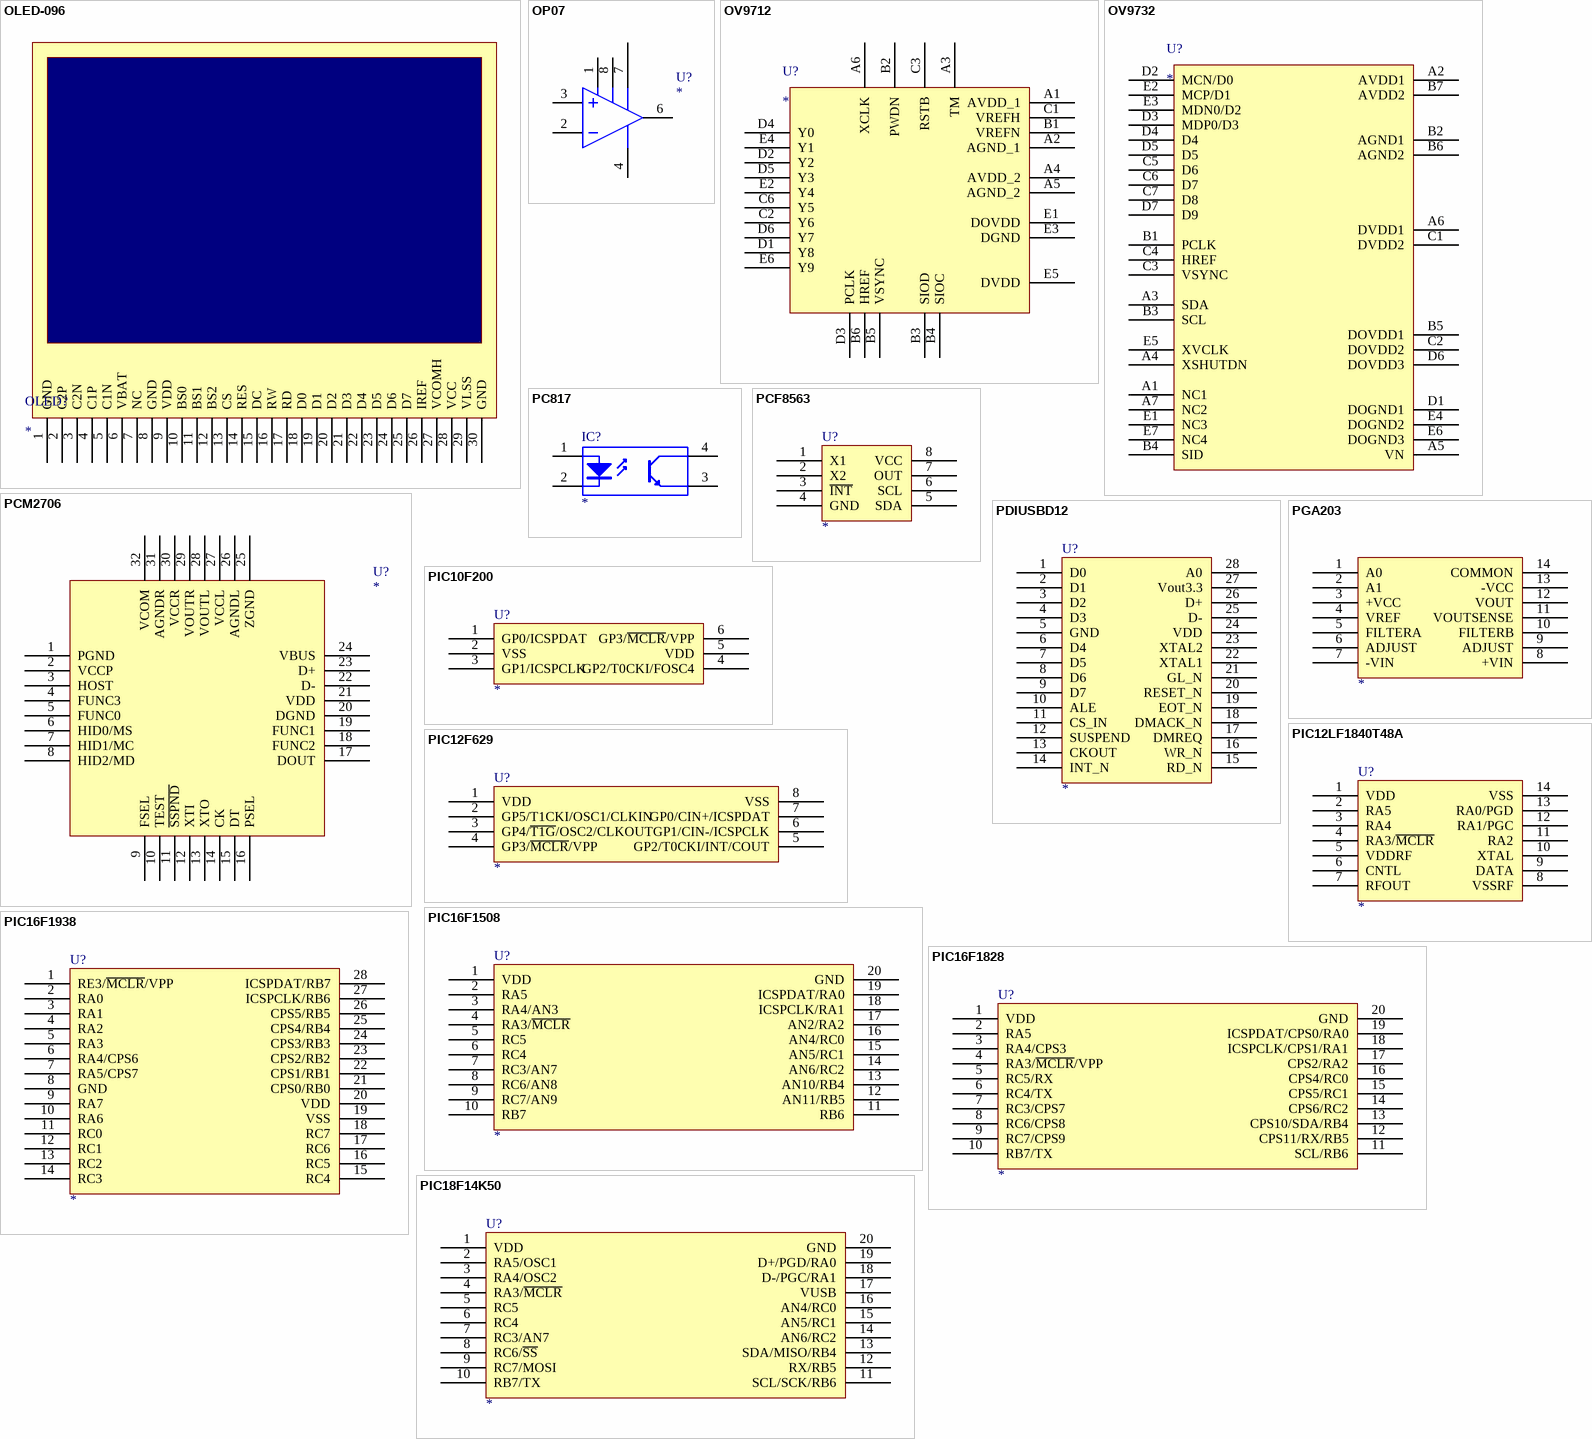
[diagram p11: symbols OLED-096 to PIC18F14K50]

## OLED-096
designator OLED?
Display
footprint OLED-096
pins: 1 GND, 2 C2P, 3 C2N, 4 C1P, 5 C1N, 6 VBAT, 7 NC, 8 GND, 9 VDD, 10 BS0, 11 BS1, 12 BS2, 13 CS, 14 RES, 15 DC, 16 RW, 17 RD, 18 D0, 19 D1, 20 D2, 21 D3, 22 D4, 23 D5, 24 D6, 25 D7, 26 IREF, 27 VCOMH, 28 VCC, 29 VLSS, 30 GND

## OP07
designator U?
Operational Amplifier
footprint DIP-8
pins: 1, 2 IN-, 3 IN+, 4 V-, 6 OUT, 7, 8 V+

## OV9712
designator U?
Image Sensor
footprint OV9712
pins: A1 AVDD_1, A2 AGND_1, A3 TM, A4 AVDD_2, A5 AGND_2, A6 XCLK, B1 VREFN, B2 PWDN, B3 SIOD, B4 SIOC, B5 VSYNC, B6 HREF, C1 VREFH, C2 Y6, C3 RSTB, C6 Y5, D1 Y8, D2 Y2, D3 PCLK, D4 Y0, D5 Y3, D6 Y7, E1 DOVDD, E2 Y4, E3 DGND, E4 Y1, E5 DVDD, E6 Y9

## OV9732
designator U?
Image Sensor
footprint OV9712
pins: A1 NC1, A2 AVDD1, A3 SDA, A4 XSHUTDN, A5 VN, A6 DVDD1, A7 NC2, B1 PCLK, B2 AGND1, B3 SCL, B4 SID, B5 DOVDD1, B6 AGND2, B7 AVDD2, C1 DVDD2, C2 DOVDD2, C3 VSYNC, C4 HREF, C5 D6, C6 D7, C7 D8, D1 DOGND1, D2 MCN/D0, D3 MDP0/D3, D4, D5, D6 DOVDD3, D7 D9, E1 NC3, E2 MCP/D1, E3 MDN0/D2, E4 DOGND2, E5 XVCLK, E6 DOGND3, E7 NC4

## PC817
designator IC?
PC817; Published: *; LatestRevisionDate: *; LatestRevisionNote: *; Publisher: *
footprint PC817
pins: 1 A, 2 K, 3 E, 4 C

## PCF8563
designator U?
footprint SOP-8
pins: 1 X1, 2 X2, 3 ~{INT}, 4 GND, 5 SDA, 6 SCL, 7 OUT, 8 VCC

## PCM2706
designator U?
footprint LQFP-32
pins: 1 PGND, 2 VCCP, 3 HOST, 4 FUNC3, 5 FUNC0, 6 HID0/MS, 7 HID1/MC, 8 HID2/MD, 9 FSEL, 10 TEST, 11 ~{SSPND}, 12 XTI, 13 XTO, 14 CK, 15 DT, 16 PSEL, 17 DOUT, 18 FUNC2, 19 FUNC1, 20 DGND, 21 VDD, 22 D-, 23 D+, 24 VBUS, 25 ZGND, 26 AGNDL, 27 VCCL, 28 VOUTL, 29 VOUTR, 30 VCCR, 31 AGNDR, 32 VCOM

## PDIUSBD12
designator U?
D12
footprint TSSOP-28
pins: 1 D0, 2 D1, 3 D2, 4 D3, 5 GND, 6 D4, 7 D5, 8 D6, 9 D7, 10 ALE, 11 CS_IN, 12 SUSPEND, 13 CKOUT, 14 INT_N, 15 RD_N, 16 WR_N, 17 DMREQ, 18 DMACK_N, 19 EOT_N, 20 RESET_N, 21 GL_N, 22 XTAL1, 23 XTAL2, 24 VDD, 25 D-, 26 D+, 27 Vout3.3, 28 A0

## PGA203
designator ?
pins: 1 A0, 2 A1, 3 +VCC, 4 VREF, 5 FILTERA, 6 ADJUST, 7 -VIN, 8 +VIN, 9 ADJUST, 10 FILTERB, 11 VOUTSENSE, 12 VOUT, 13 -VCC, 14 COMMON

## PIC10F200
designator U?
footprint SOT-23-6
pins: 1 GP0/ICSPDAT, 2 VSS, 3 GP1/ICSPCLK, 4 GP2/T0CKI/FOSC4, 5 VDD, 6 GP3/~{MCLR}/VPP

## PIC12F629
designator U?
footprint SOP-8
pins: 1 VDD, 2 GP5/T1CKI/OSC1/CLKIN, 3 GP4/~{T1G}/OSC2/CLKOUT, 4 GP3/~{MCLR}/VPP, 5 GP2/T0CKI/INT/COUT, 6 GP1/CIN-/ICSPCLK, 7 GP0/CIN+/ICSPDAT, 8 VSS

## PIC12LF1840T48A
designator U?
footprint TSSOP-14
pins: 1 VDD, 2 RA5, 3 RA4, 4 RA3/~{MCLR}, 5 VDDRF, 6 CNTL, 7 RFOUT, 8 VSSRF, 9 DATA, 10 XTAL, 11 RA2, 12 RA1/PGC, 13 RA0/PGD, 14 VSS

## PIC16F1508
designator U?
footprint TSSOP-20
pins: 1 VDD, 2 RA5, 3 RA4/AN3, 4 RA3/~{MCLR}, 5 RC5, 6 RC4, 7 RC3/AN7, 8 RC6/AN8, 9 RC7/AN9, 10 RB7, 11 RB6, 12 AN11/RB5, 13 AN10/RB4, 14 AN6/RC2, 15 AN5/RC1, 16 AN4/RC0, 17 AN2/RA2, 18 ICSPCLK/RA1, 19 ICSPDAT/RA0, 20 GND